# Altium schematic symbol library AltiumLib.SchLib: 341 symbols (part 4 of 5)
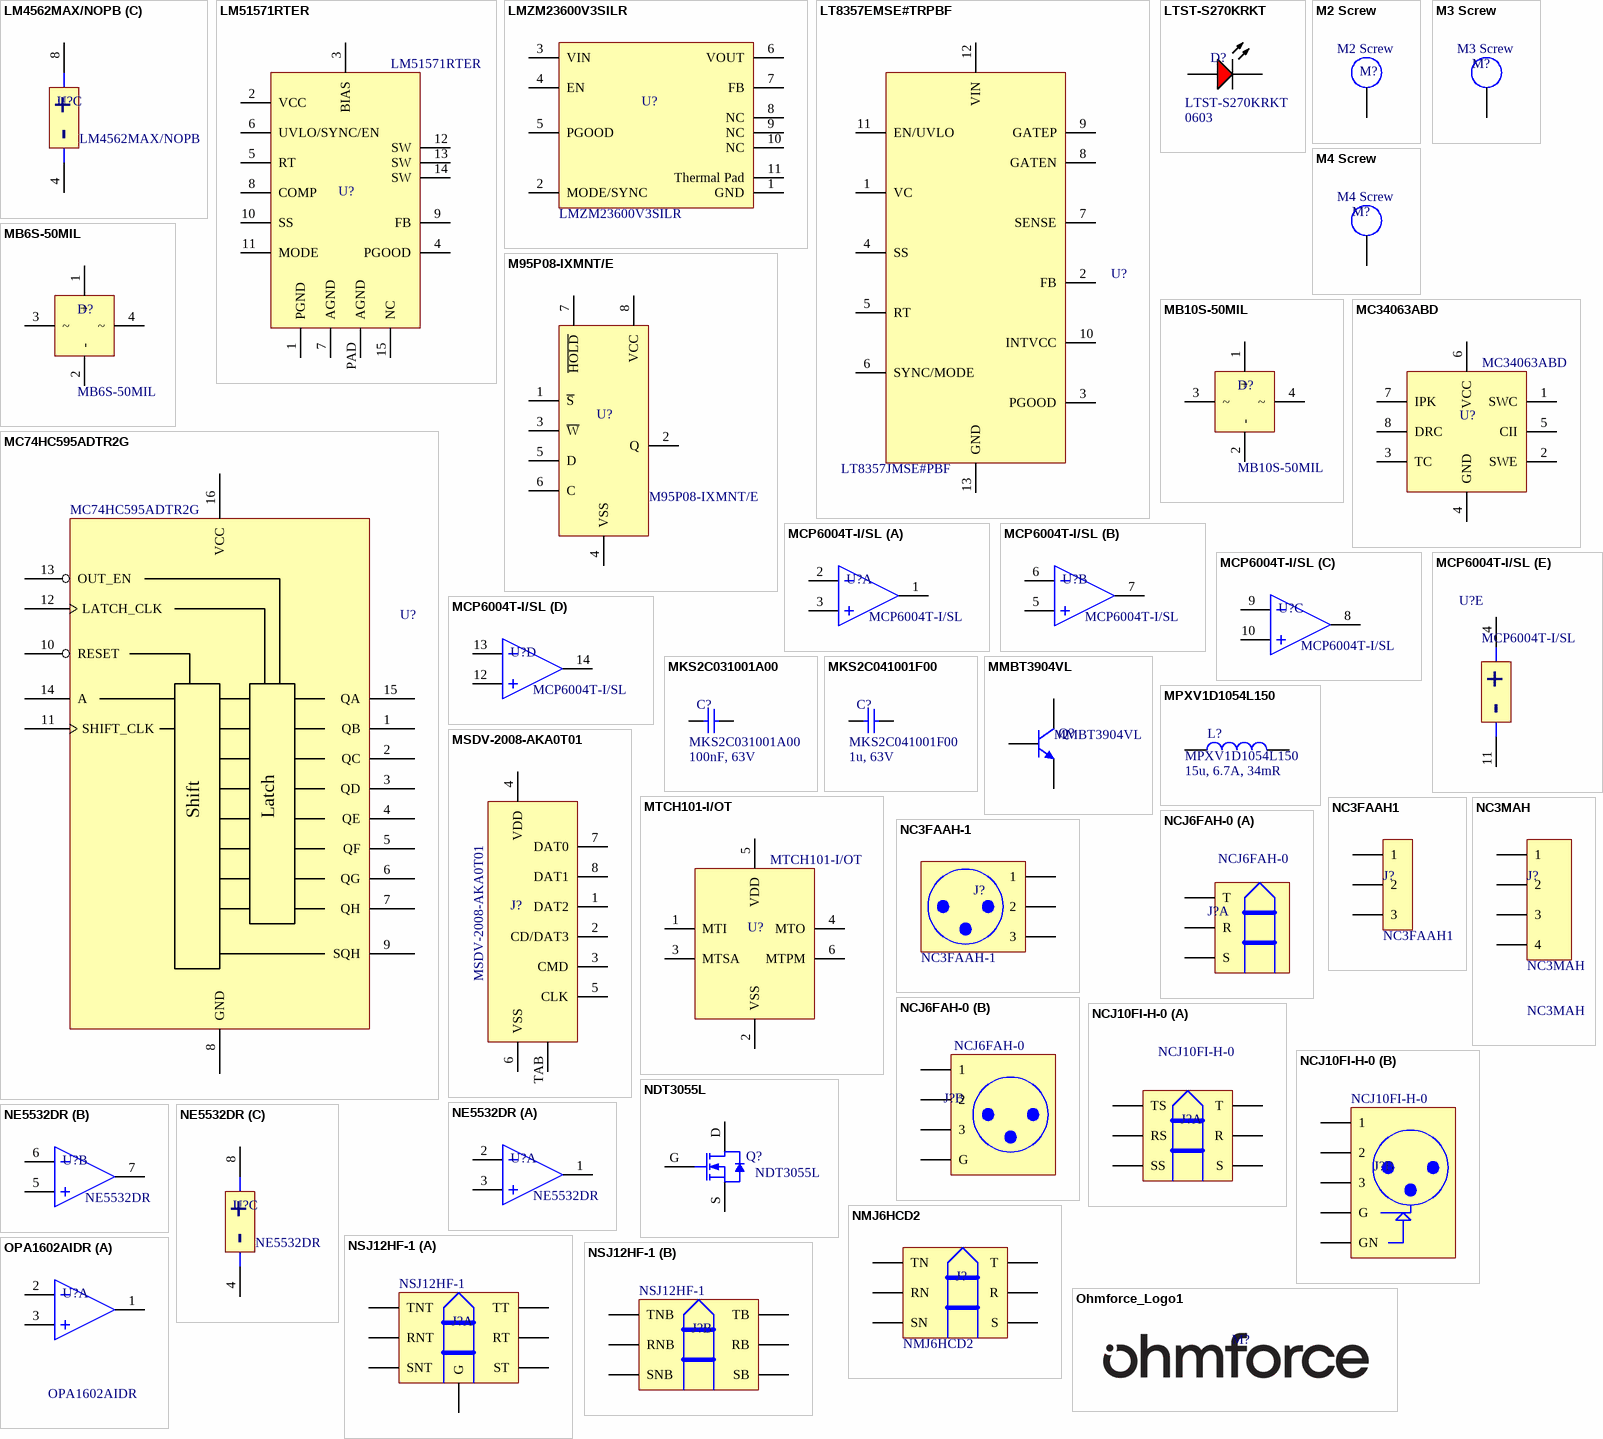
[diagram p22: symbols LM4562MAX/NOPB to OPA1602AIDR]

## NDT3055L
designator Q?
N-Channel Logic Level Enahncement Mode Field Effect Transistor 60V, 4A, 100mΩ; Manufacturer: On Semiconductors; Drain to Source Resistance: 70mR; Nominal Vgs: 1.6V; Number of Elements: 1; Max Power Dissipation: 3W; Voltage: 40V; Current Rating: 3.5A; Input Capacitance: 345pF; Fall Time: 7ns; Current: 32A; Rds On Max: 100mR; Rise Time: 7.5ns; Gate to Source Voltage (Vgs): 20V; Turn-Off Delay Time: 20ns; Turn-On Delay Time: 5ns; Case/Package: SOT-223; Drain to Source Breakdown Voltage: 60V; Packaging: Tape and Reel; Category: Transistor; Lead Free: Lead Free; Voltage Rating (DC): 60V; Package Quantity: 2500; Series: -; Length: 6.5mm; Max Operating Temperature: 150°C; Width: 6.7mm; Dual Supply Voltage: 60V; Drain to Source Voltage (Vdss): 60V; Height: 1.6mm; Reach SVHC Compliant: No; Polarity: N-CHANNEL; Drain-source On Resistance-Max: 100mR; Power Dissipation: 3W; Mounting Technology: Surface Mount; Continuous Drain Current (ID): 4A; Min Operating Temperature: -65°C; Threshold Voltage: 1.6V; Pins: 4; RoHS Compliant: Yes; Radiation Hardening: No; Manufacturer Part Number: NDT3055L; Component Type: Standard_Transistor; Sub-Category: MOSFET; Package: SOT223-4; Value: NDT3055L
footprint SOT230P700X165-4N (SOT223, 4-Leads, Body 6.50x7.00mm (avg), Pitch 2.30mm, IPC Medium Density); pin to pad D>2+TAB G>1 S>3
pins: D, G, S

## NE5532DR
designator U?
Operational Amplifiers - Op Amps Dual Low Noise Op Amp; Manufacturer: Texas Instruments; Category: IC; Sub-Category: OpAmp; Package: SOIC8; Value: NE5532DR
footprint SOIC127P600X175-8L (SOIC, 8-Leads, Body 4,90x3,90mm, Pitch 1,27mm, IPC High Density)
part A pins: 1 OUT1, 2 IN1-, 3 IN1+
part B pins: 5 IN2+, 6 IN2-, 7 OUT2
part C pins: 4 VCC- (power), 8 VCC+ (power)
part C text: +; -

## NMJ6HCD2
designator J?
1/4" stereo jack, switched, with chrome ferrule and straight PCB pins, mounting nut included; Manufacturer: Neutrik; Category: Connector; Sub-Category: Jack; Value: NMJ6HCD2
footprint NMJ6HCD2
pins: R, RN, S, SN, T, TN

## NSJ12HF-1
designator J?
Stereo dual jack, full threaded nose; Manufacturer: Neutrik; Sub-Category: Jack; Category: Connector; Value: NSJ12HF-1
footprint NSJ12HF-1
part A pins: G, RNT, RT, SNT, ST, TNT, TT
part B pins: RB, RNB, SB, SNB, TB, TNB

## Ohmforce_Logo1
designator M?  (value not drawn)
20*3.5mm ohmforce logo; Value: Ohmforce_Logo1; Category: Mechanical; Sub-Category: Logo
footprint Ohmforce_Logo1
footprint Ohmforce_Logo1_Silver

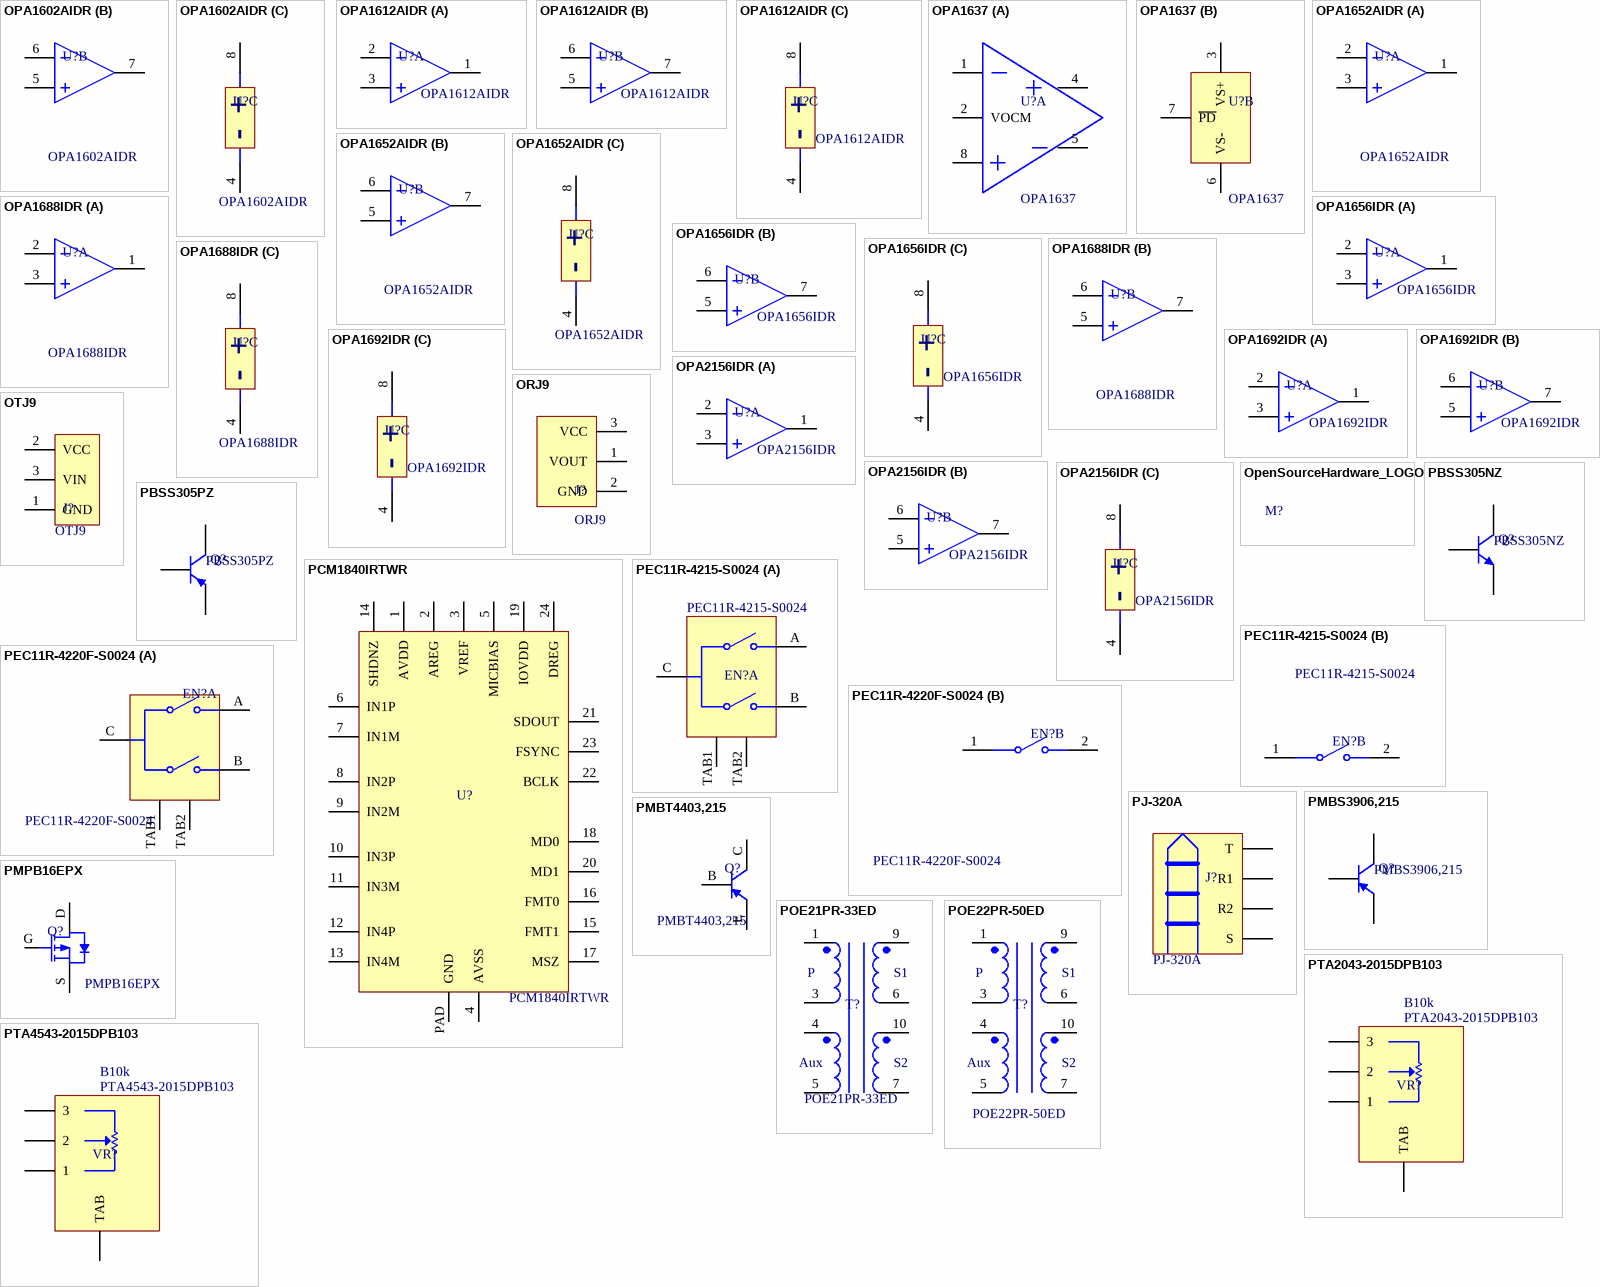
[diagram p11: symbols OPA1602AIDR to PTA4543-2015DPB103]

## OPA1602AIDR
designator U?
SoundPlus™ High-Performance, Bipolar-Input AUDIO OPERATIONAL AMPLIFIERS; Manufacturer: Texas Instruments; Category: IC; Sub-Category: OpAmp; Package: SOIC8; Value: OPA1602AIDR
footprint SOIC127P600X175-8L (SOIC, 8-Leads, Body 4,90x3,90mm, Pitch 1,27mm, IPC High Density)
part A pins: 1 OUT1, 2 IN1-, 3 IN1+
part B pins: 5 IN2+, 6 IN2-, 7 OUT2
part C pins: 4 VCC- (power), 8 VCC+ (power)
part C text: +; -

## OPA1612AIDR
designator U?
High-Performance, Bipolar-Input Audio Operational Amplifiers; Manufacturer: Texas Instruments; Category: IC; Sub-Category: OpAmp; Package: SOIC8; Value: OPA1612AIDR
footprint SOIC127P600X175-8L (SOIC, 8-Leads, Body 4,90x3,90mm, Pitch 1,27mm, IPC High Density)
part A pins: 1 OUT1, 2 IN1-, 3 IN1+
part B pins: 5 IN2+, 6 IN2-, 7 OUT2
part C pins: 4 VCC- (power), 8 VCC+ (power)
part C text: +; -

## OPA1637
designator U?
High-Fidelity, Low-Noise, Fully-Differential, Burr-Brown™ Audio Operational Amplifier; Manufacturer: Texas Instruments; Category: IC; Sub-Category: OpAmp; Package: VSSOP8; Value: OPA1637
footprint TSOP65P490X110-8N (TSOP, 8-Leads, Body 3,00x3,00mm, Pitch 0,65mm, IPC Medium Density)
part A pins: 1 IN-, 2 VOCM, 4 OUT+, 5 OUT-, 8 IN+
part B pins: 3 VS+, 6 VS-, 7 ~{PD}

## OPA1652AIDR
designator U?
SoundPlus™ Low Noise and Distortion, General-Purpose, FET-Input Audio Operational Amplifiers; Manufacturer: Texas Instruments; Category: IC; Sub-Category: OpAmp; Package: SOIC8; Value: OPA1652AIDR
footprint SOIC127P600X175-8L (SOIC, 8-Leads, Body 4,90x3,90mm, Pitch 1,27mm, IPC High Density)
part A pins: 1 OUT1, 2 IN1-, 3 IN1+
part B pins: 5 IN2+, 6 IN2-, 7 OUT2
part C pins: 4 VCC- (power), 8 VCC+ (power)
part C text: +; -

## OPA1656IDR
designator U?
Ultra-Low-Noise, Low-Distortion, FET-Input, Burr-Brown™ Audio Operational Amplifiers; Manufacturer: Texas Instruments; Category: IC; Sub-Category: OpAmp; Package: SOIC8; Value: OPA1656IDR
footprint SOIC127P600X175-8L (SOIC, 8-Leads, Body 4,90x3,90mm, Pitch 1,27mm, IPC High Density)
part A pins: 1 OUT1, 2 IN1-, 3 IN1+
part B pins: 5 IN2+, 6 IN2-, 7 OUT2
part C pins: 4 VCC- (power), 8 VCC+ (power)
part C text: +; -

## OPA1688IDR
designator U?
36-V, Single-Supply, 10-MHz, Rail-to-Rail Output, / SoundPlus™ Audio Operational Amplifier; Manufacturer: Texas Instruments; Category: IC; Sub-Category: OpAmp; Package: SOIC8; Value: OPA1688IDR
footprint SOIC127P600X175-8L (SOIC, 8-Leads, Body 4,90x3,90mm, Pitch 1,27mm, IPC High Density)
part A pins: 1 OUT1, 2 IN1-, 3 IN1+
part B pins: 5 IN2+, 6 IN2-, 7 OUT2
part C pins: 4 VCC- (power), 8 VCC+ (power)
part C text: +; -

## OPA1692IDR
designator U?
Low-Power, Low-Noise and Low-Distortion / SoundPlus™ Audio Operational Amplifiers; Manufacturer: Texas Instruments; Category: IC; Sub-Category: OpAmp; Package: SOIC8; Value: OPA1692IDR
footprint SOIC127P600X175-8L (SOIC, 8-Leads, Body 4,90x3,90mm, Pitch 1,27mm, IPC High Density)
part A pins: 1 OUT1, 2 IN1-, 3 IN1+
part B pins: 5 IN2+, 6 IN2-, 7 OUT2
part C pins: 4 VCC- (power), 8 VCC+ (power)
part C text: +; -

## OPA2156IDR
designator U?
Ultra-Low Noise, Wide-Bandwidth, CMOS, Precision, Rail-to-Rail, Operational Amplifier; Manufacturer: Texas Instruments; Category: IC; Sub-Category: OpAmp; Package: SOIC8; Value: OPA2156IDR
footprint SOIC127P600X175-8L (SOIC, 8-Leads, Body 4,90x3,90mm, Pitch 1,27mm, IPC High Density)
part A pins: 1 OUT1, 2 IN1-, 3 IN1+
part B pins: 5 IN2+, 6 IN2-, 7 OUT2
part C pins: 4 VCC- (power), 8 VCC+ (power)
part C text: +; -

## OpenSourceHardware_LOGO
designator M?  (value not drawn)
OpenSourceHardware LOGO; Value: OpenSourceHardware_LOGO; Category: Mechanical; Sub-Category: Logo
footprint OpenSourceHardware_LOGO_8*8

## ORJ9
designator J?
Optical receiver. Hinged, black shutter; Manufacturer: Cliff; Category: Connector; Sub-Category: Optical; Value: ORJ9
footprint ORJ9
pins: 1 VOUT, 2 GND, 3 VCC

## OTJ9
designator J?
Optical transmitter. Hinged, grey shutter.; Manufacturer: Cliff; Category: Connector; Sub-Category: Optical; Value: OTJ9
footprint ORJ9
pins: 1 GND, 2 VCC, 3 VIN

## PBSS305NZ
designator Q?
80 V, 5.1 A NPN low VCEsat (BISS) transistor; Manufacturer: NXP; Manufacturer Part Number: DZT2222A-13; Collector-emitter Voltage-Max: 40V; Time @ Peak Reflow Temperature-Max (s): 40s; Number of Elements: 1; Case Connection: COLLECTOR; Transistor Application: SWITCHING; Package Body Material: Plastic; Turn-on Time-Max (ton): 35ns; Power Dissipation-Max (Abs): 1W; DC Current Gain-Min (hFE): 40; Max Collector Current: 600mA; Transistor Element Material: SILICON; Transition Frequency-Nom (fT): 300MHz; Qualification Status: Not Qualified; Turn-off Time-Max (toff): 285ns; Max Operating Temperature: 150°C; JESD-609 Code: e3; Moisture Sensitivity Level: 1; Sub-Category: BJT; JESD-30 Code: R-PDSO-G4; RoHS Compliant: Yes; Surface Mount: Yes; REACH SVHC: Yes; Polarity/Channel Type: NPN; Terminal Finish: Tin; Terminal Form: Gull Wing; Package Shape: Rectangular; Number of Pins: 4; Package Style: SMALL OUTLINEMeter; Category: Transistor; Peak Reflow Temperature (Cel): 260°C; Terminal Position: DUAL; Component Type: Standard_Transistor; Package: SOT223-4; Value: PBSS305NZ
footprint SOT230P700X165-4N (SOT223, 4-Leads, Body 6.50x7.00mm (avg), Pitch 2.30mm, IPC Medium Density); pin to pad B>1 C>2+TAB E>3
pins: B, C, E

## PBSS305PZ
designator Q?
80 V, 5.1 A PNP low VCEsat (BISS) transistor; Manufacturer: NXP; Manufacturer Part Number: DZT2222A-13; Collector-emitter Voltage-Max: 40V; Time @ Peak Reflow Temperature-Max (s): 40s; Number of Elements: 1; Case Connection: COLLECTOR; Transistor Application: SWITCHING; Polarity/Channel Type: NPN; Package Body Material: Plastic; Turn-on Time-Max (ton): 35ns; Power Dissipation-Max (Abs): 1W; DC Current Gain-Min (hFE): 40; Max Collector Current: 600mA; Transistor Element Material: SILICON; Transition Frequency-Nom (fT): 300MHz; Qualification Status: Not Qualified; Turn-off Time-Max (toff): 285ns; Max Operating Temperature: 150°C; JESD-609 Code: e3; Moisture Sensitivity Level: 1; Sub-Category: BJT; JESD-30 Code: R-PDSO-G4; RoHS Compliant: Yes; Surface Mount: Yes; REACH SVHC: Yes; Terminal Finish: Tin; Terminal Form: Gull Wing; Package Shape: Rectangular; Number of Pins: 4; Package Style: SMALL OUTLINEMeter; Category: Transistor; Peak Reflow Temperature (Cel): 260°C; Terminal Position: DUAL; Component Type: Standard_Transistor; Package: SOT223-4; Value: PBSS305PZ
footprint SOT230P700X165-4N (SOT223, 4-Leads, Body 6.50x7.00mm (avg), Pitch 2.30mm, IPC Medium Density); pin to pad B>1 C>2+TAB E>3
pins: B, C, E

## PCM1840IRTWR
designator U?
Quad Channel, 32-Bit, 192-kHz, Burr-BrownTM Audio ADC; Manufacturer: Texas Instruments; Category: IC; Sub-Category: ADC; Package: QFN24; Value: PCM1840IRTWR
footprint PQFN50P400X400X80_HS-25N (PQFN, 24-Leads, Body 4,00x4,00mm, Pitch 0,50mm, Thermal Pad 2,70x2,70mm, IPC Medium Density)
pins: 1 AVDD, 2 AREG, 3 VREF, 4 AVSS, 5 MICBIAS, 6 IN1P, 7 IN1M, 8 IN2P, 9 IN2M, 10 IN3P, 11 IN3M, 12 IN4P, 13 IN4M, 14 SHDNZ, 15 FMT1, 16 FMT0, 17 MSZ, 18 MD0, 19 IOVDD, 20 MD1, 21 SDOUT, 22 BCLK, 23 FSYNC, 24 DREG, PAD GND

## PEC11R-4215-S0024
designator EN?
Rotary Encoder Mechanical 24 Quadrature (Incremental) Vertical; Manufacturer: Bourns; Category: Switch; Sub-Category: Encoder; Value: PEC11R-4215-S0024
footprint PEC11R-4215-S0024
part A pins: A, B, C, TAB1, TAB2
part B pins: 1, 2

## PEC11R-4220F-S0024
designator EN?
Rotary Encoder Mechanical 24 Quadrature (Incremental) Vertical; Manufacturer: Bourns; Category: Switch; Sub-Category: Encoder; Value: PEC11R-4220F-S0024
footprint PEC11R-4220F-S0024
part A pins: A, B, C, TAB1, TAB2
part B pins: 1, 2

## PJ-320A
designator J?
3.5mm Headphone Jack 30V 500mA Copper Plugin Audio Connectors ROHS; Manufacturer: HanElectricity; Category: Connector; Sub-Category: Jack; Value: PJ-320A
footprint PJ-320A
pins: R1, R2, S, T

## PMBS3906,215
designator Q?
TRANS PNP 40V 0.1A SOT23; Manufacturer: Nexperia; Manufacturer Part Number: PMBS3906215; Category: Transistor; Sub-Category: BJT; Component Type: Standard_Transistor; Package: SOT23-3; Value: PMBS3906,215
footprint SOT95P230X110-3N (SOT23, 3-Leads, Body 2.90x2.30mm, Pitch 0.95mm, IPC Medium Density); pin to pad B>1 C>3 E>2
pins: B, C, E

## PMBT4403,215
designator Q?
40 V, 600 mA, PNP switching transistor; Manufacturer: Nexperia; Category: Transistor; Sub-Category: BJT; Value: PMBT4403,215
footprint SOT95P230X110-3N; pin to pad B>1 C>3 E>2
pins: B, C, E

## PMPB16EPX
designator Q?
30V, P-channel Trench MOSFET; Manufacturer: Nexperia; Category: Transistor; Sub-Category: MOSFET; Value: PMPB16EPX
footprint SOT1220; pin to pad D>1+2+5+6+7 G>3 S>4+8
pins: D, G, S

## POE21PR-33ED
designator T?
SMPS Transformer, 21W; Manufacturer: Coilcraft; Sub-Category: Transformer; Category: Inductor; Component Type: Standard_Passive_Transformer; Value: POE21PR-33ED
footprint POE24PR-12ED (Flyback & Forward Transformers for PoE)
pins: 1 P_P, 3 P_N, 4 AUX_P, 5 AUX_N, 6 S1_N, 7 S2_N, 9 S1_P, 10 S2_P
text: P; S1; Aux; S2

## POE22PR-50ED
designator T?
SMPS Transformer, 22W; Manufacturer: Coilcraft; RoHS Compliant: Yes; Sub-Category: Transformer; Category: Inductor; Manufacturer Part Number: POE22PR-50ED; Component Type: Standard_Passive_Transformer; Value: POE22PR-50ED
footprint POE24PR-12ED (Flyback & Forward Transformers for PoE)
pins: 1 P_P, 3 P_N, 4 AUX_P, 5 AUX_N, 6 S1_N, 7 S2_N, 9 S1_P, 10 S2_P
text: P; S1; Aux; S2

## PTA2043-2015DPB103
designator VR?  Notes: B10k  (hidden comment: PTA2043-2015DPB103)
9mm Size Metal Shaft Snap-in Type RK09L Series; Manufacturer: Bourns; Category: Resistor; Sub-Category: Pot; Value: PTA2043-2015DPB103
footprint PTA2043-2015DPB103
pins: 1, 2, 3, TAB

## PTA4543-2015DPB103
designator VR?  Notes: B10k  (hidden comment: PTA4543-2015DPB103)
Low Profile Slide Potentiometer, 10kB; Manufacturer: Bourns; Category: Resistor; Sub-Category: Pot; ComponentLink1Description: Product Page; ComponentLink1URL: https://www.bourns.com/products/potentiometers/slide-potentiometers/product/PTA; ComponentLink2Description: Datasheet; ComponentLink2URL: https://www.bourns.com/docs/product-datasheets/pta.pdf?sfvrsn=d56272f6_14; Value: PTA4543-2015DPB103
footprint PTA4543-2015DPB103
pins: 1, 2, 3, TAB

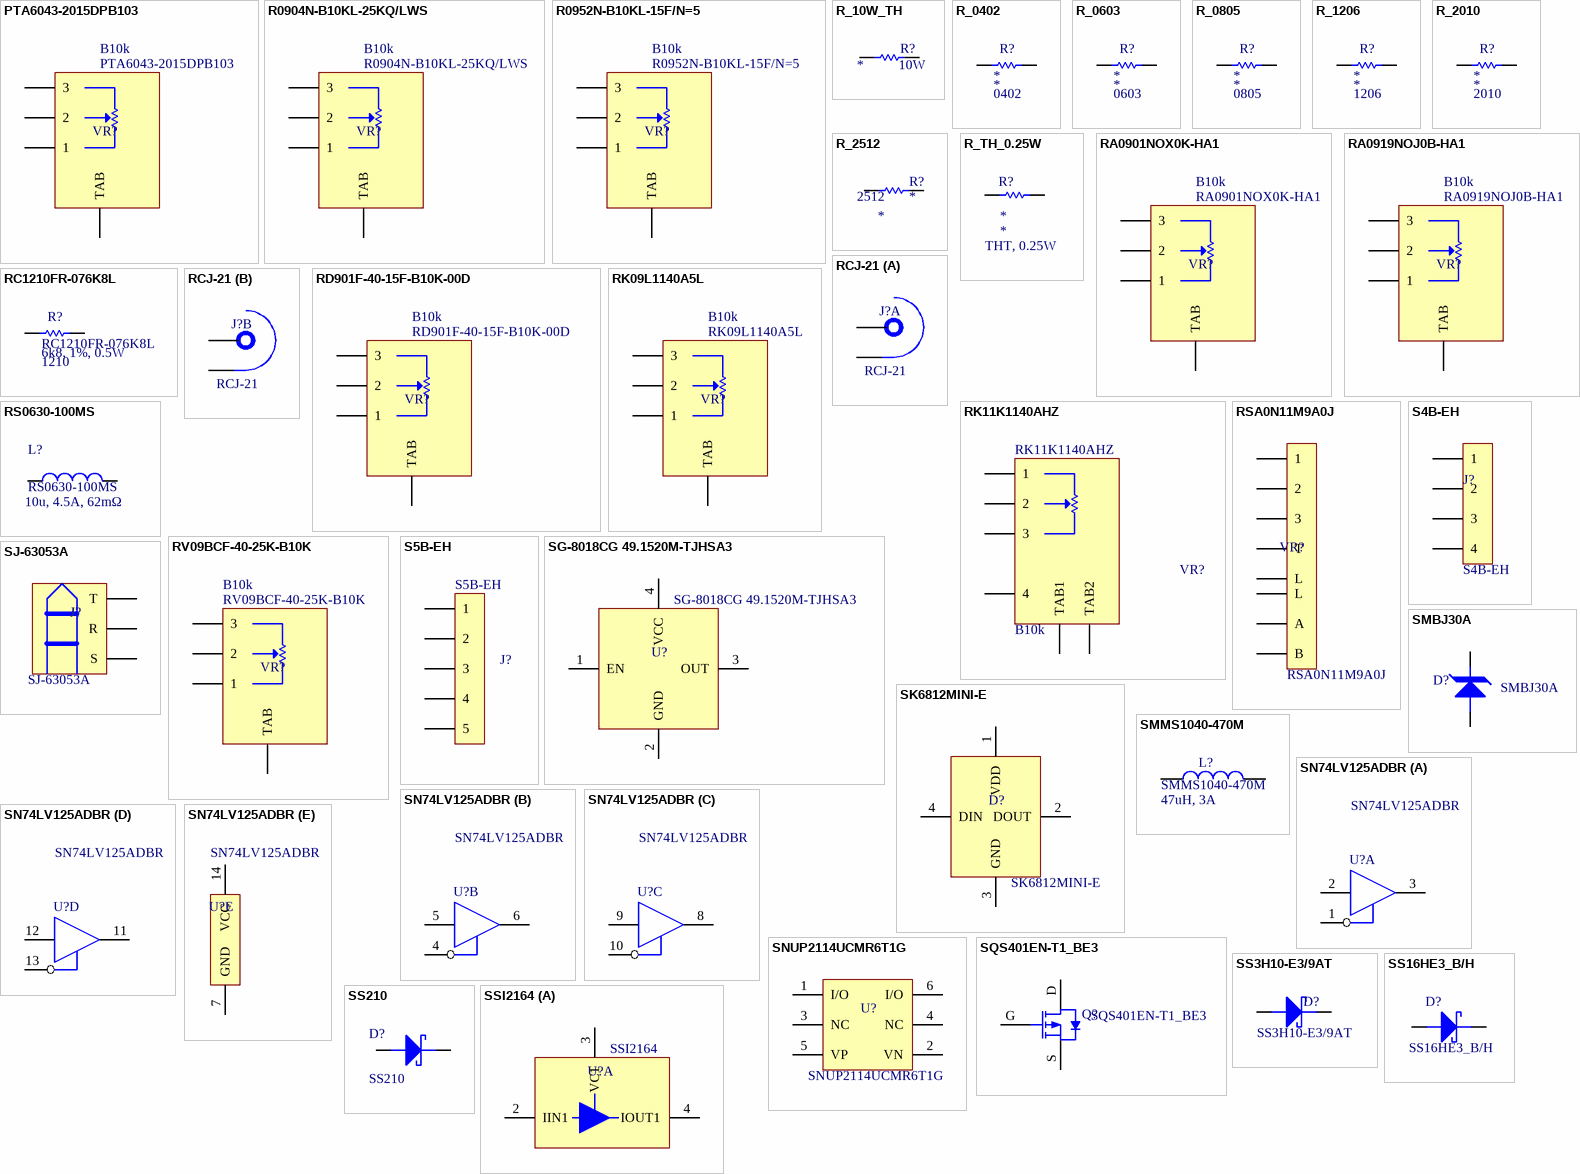
[diagram p12: symbols PTA6043-2015DPB103 to SSI2164]

## PTA6043-2015DPB103
designator VR?  Notes: B10k  (hidden comment: PTA6043-2015DPB103)
9mm Size Metal Shaft Snap-in Type RK09L Series; Manufacturer: Bourns; Category: Resistor; Sub-Category: Pot; Value: PTA6043-2015DPB103
footprint PTA6043-2015DPB103
pins: 1, 2, 3, TAB

## R0904N-B10KL-25KQ/LWS
designator VR?  Notes: B10k  (hidden comment: R0904N-B10KL-25KQ/LWS)
Potentiometers 9mm Linear 10K Flat Shaft; Manufacturer: Song-Huei; Category: Resistor; Sub-Category: Pot; Value: R0904N-B10KL-25KQ/LWS
footprint R0904N-B10KL-25KQ/LWS
pins: 1, 2, 3, TAB

## R0952N-B10KL-15F/N=5
designator VR?  Notes: B10k  (hidden comment: R0952N-B10KL-15F/N=5)
Potentiometers 9mm Linear 10K Flat Shaft; Manufacturer: Song-Huei; Category: Resistor; Sub-Category: Pot; Value: R0952N-B10KL-15F/N=5
footprint RD901F-40-15F (9mm Single Potentiometer Metal Shaft)
pins: 1, 2, 3, TAB

## R_10W_TH
designator R?  Notes: 10W  (hidden comment: R_10W_TH)
Generic 10W Through_Hole Cement Resistor; Manufacturer: Generic; Sub-Category: THT; Category: Resistor; Component Type: Standard_Passive_R; Value: *
footprint R_10W_TH (10W Through-Hole Resistor white square type)
pins: 1, 2

## R_0402
designator R?, comment Package: 0402  (hidden comment: R)
Generic 0402 Single Resistor; Manufacturer: Generic; Category: Resistor; Sub-Category: SMD; Notes: *; Value: *
footprint RESC1005X04N (Chip Resistor, 2-Leads, Body 1,00x0,50mm, IPC Medium Density)
pins: 1, 2

## R_0603
designator R?, comment Package: 0603  (hidden comment: R)
Generic 0603 Single Resistor; Manufacturer: Generic; Category: Resistor; Sub-Category: SMD; Notes: *; Value: *
footprint RESC1608X06N
pins: 1, 2

## R_0805
designator R?, comment Package: 0805  (hidden comment: R)
Generic 0805 Single Resistor; Manufacturer: Generic; Category: Resistor; Sub-Category: SMD; Notes: *; Value: *
footprint RESC2012X06N
pins: 1, 2

## R_1206
designator R?, comment Package: 1206  (hidden comment: R)
Generic 1206 Single Resistor; Manufacturer: Generic; Category: Resistor; Sub-Category: SMD; Notes: *; Value: *
footprint RESC3116X06N
pins: 1, 2

## R_2010
designator R?, comment Package: 2010  (hidden comment: R)
Generic 2010 Single Resistor; Manufacturer: Generic; Category: Resistor; Sub-Category: SMD; Notes: *; Value: *
footprint RESC5025X06N
pins: 1, 2

## R_2512
designator R?  Package: 2512  (hidden comment: R_2512)
Generic 2512 Single Resistor; Sub-Category: SMD; Manufacturer: Generic; Category: Resistor; Component Type: Standard_Passive_R; Notes: *; Value: *
footprint RESC6431X06N (Chip Resistor, 2-Leads, Body 6.35x3.10mm, IPC Medium Density)
pins: 1, 2

## R_TH_0.25W
designator R?  Package: THT, 0.25W  (hidden comment: R_TH_0.25W)
Generic Resistor Through Hole 0.25W; Category: Resistor; Sub-Category: THT; Manufacturer: Generic; Component Type: Standard_Passive_R; Notes: *; Value: *
footprint R_TH_0.25W (0.25W Through Hole Resistor)
pins: 1, 2

## RA0901NOX0K-HA1
designator VR?  Notes: B10k  (hidden comment: RA0901NOX0K-HA1)
Potentiometers 9mm Linear 10K Flat Shaft; Manufacturer: Soundwell; Category: Resistor; Sub-Category: Pot; Value: RA0901NOX0K-HA1
footprint R0904N-B10KL-25KQ/LWS
pins: 1, 2, 3, TAB

## RA0919NOJ0B-HA1
designator VR?  Notes: B10k  (hidden comment: RA0919NOJ0B-HA1)
Potentiometers 9mm Linear 10K Flat Shaft; Manufacturer: Soundwell; Category: Resistor; Sub-Category: Pot; Value: RA0919NOJ0B-HA1
footprint RD901F-40-15F (9mm Single Potentiometer Metal Shaft)
pins: 1, 2, 3, TAB

## RC1210FR-076K8L
designator R?  Package: 1210  Notes: 6k8, 1%, 0.5W  (hidden comment: RC1210FR-076K8L)
RES 6.8K OHM 1% 1/2W 1210; Manufacturer: Yageo; Category: Resistor; Sub-Category: SMD; Value: RC1210FR-076K8L
footprint RESC3126X06N (Chip Resistor, 2-Leads, Body 3,10x2,60mm, IPC Medium Density)
pins: 1, 2

## RCJ-21
designator J?
RCA Jack, 2 ports, separate grounds, through hole; Manufacturer: Same Sky; Category: Connector; Sub-Category: RCA; Value: RCJ-21
footprint RCJ-21
part A pins: 1, 2
part B pins: 3, 4

## RD901F-40-15F-B10K-00D
designator VR?, comment value RD901F-40-15F-B10K-00D  Notes: B10k  (hidden comment: RD901F-40-15F)
Potentiometers 9mm Linear 10K Flat Shaft; Manufacturer: Alpha; Category: Resistor; Sub-Category: Pot
footprint RD901F-40-15F (9mm Single Potentiometer Metal Shaft)
pins: 1, 2, 3, TAB

## RK09L1140A5L
designator VR?  Notes: B10k  (hidden comment: RK09L1140A5L)
9mm Size Metal Shaft Snap-in Type RK09L Series; Manufacturer: Alps; Category: Resistor; Sub-Category: Pot; Value: RK09L1140A5L
footprint RK09L1140A5L (9mm Size Metal Shaft Snap-in Type RK09L Series)
pins: 1, 2, 3, TAB

## RK11K1140AHZ
designator VR?  Notes: B10k  (hidden comment: RK11K1140AHZ)
Rotary Potentiometer, 10 kOhm, 1Turn, 50 mW, ± 20%; Manufacturer: Alps; Sub-Category: Pot; Category: Resistor; Manufacturer Part Number: RK11K1140AHZ; Component Type: Standard_Passive_R; Value: RK11K1140AHZ
footprint RK11K1140AHZ (Potentiometer 11mm Size Insulated Shaft Snap-in Type RK11K Series)
pins: 1, 2, 3, 4, TAB1, TAB2

## RS0630-100MS
designator L?  Notes: 10u, 4.5A, 62mΩ  (hidden comment: RS0630-100MS)
10uH 4.5A 5.5A 62mΩ Molded Inductor ±20% SMD,7.2x6.6mm Power Inductors; Manufacturer: Ruishen; Category: Inductor; ComponentLink1Description: Website Link; ComponentLink1URL: https://www.we-online.com/redexpert/article/74438367100?ad; ComponentLink2Description: Datasheet Link; ComponentLink2URL: https://www.we-online.com/redexpert/spec/74438367100?ad; Sub-Category: Power; Value: RS0630-100MS
footprint RS0630-100MS
pins: 1, 2

## RSA0N11M9A0J
designator VR?
Motorized 10k Linear Fader; Manufacturer: Alps; Category: Resistor; Sub-Category: Pot; Value: RSA0N11M9A0J
footprint RSA0N11M9A0J
pins: 1, 2, 3, A, B, L1 L, L2 L, T

## RV09BCF-40-25K-B10K
designator VR?  Notes: B10k  (hidden comment: RV09BCF-40-25K-B10K)
9mm Rotary Type Potentiometer, Snap-In, Insulated Shaft; Manufacturer: Alpha Taiwan; Category: Resistor; Sub-Category: Pot; Value: RV09BCF-40-25K-B10K
footprint RV09BCF-40-25K
pins: 1, 2, 3, TAB

## S4B-EH
designator J?
Conn Shrouded Header (3 Sides) HDR 4 POS 2.5mm Solder RA Side Entry Thru-Hole Box; Manufacturer: JST; Manufacturer Part Number: S4B-EH(LF)(SN); System: Connector; Male/Female: Male; Sub-Category: Header; Category: Connector; Component Type: Standard_Connector; Value: S4B-EH
footprint S4B-EH(LF)(SN) (2.5mm pitch/Disconnectable crimp style connectors)
pins: 1, 2, 3, 4

## S5B-EH
designator J?
Wire-To-Board Connector, Eh Series, Press Fit, Header, 5, 2.5 Mm, Tin Plated Contacts Rohs Compliant: Yes; Manufacturer: JST; Manufacturer Part Number: S5B-EH(LF)(SN); Category: Connector; Sub-Category: Header; System: Connector; Component Type: Standard_Connector; Value: S5B-EH
footprint S5B-EH (Connector Header Through Hole, Right Angle 5 position 0.098" (2.50mm))
pins: 1, 2, 3, 4, 5

## SG-8018CG 49.1520M-TJHSA3
designator U?
49.152MHz Oscillator 2.5x2mm; Manufacturer: Epson; Category: IC; Sub-Category: Oscillator; Value: SG-8018CG 49.1520M-TJHSA3
footprint 2.5*2mm Osc
pins: 1 EN, 2 GND, 3 OUT, 4 VCC

## SJ-63053A
designator J?
6.35 mm, Stereo, Right Angle, Through Hole Mount, 3 Conductors, 0 Internal Switches, Audio Jack Connector; Manufacturer: Same Sky; Category: Connector; Sub-Category: Jack; Value: SJ-63053A
footprint SJ-63053A (6.35 mm, Stereo, Right Angle, Through Hole Mount, 3 Conductors, 0 Internal Switches, Audio Jack Connector)
pins: R, S, T

## SK6812MINI-E
designator D?
3.2x2.8x1.78 mm 0.2W Intelligent external / control surface mount SMD LED; Manufacturer: OPSCO Optoelectronics; Category: Diode; Sub-Category: LED; Value: SK6812MINI-E
footprint SK6812MINI-E
pins: 1 VDD, 2 DOUT, 3 GND, 4 DIN

## SMBJ30A
designator D?
Trans Voltage Suppressor Diode, 600W, 30V V(RWM), Unidirectional, 1 Element, Silicon, DO-214AA; Manufacturer: Bourns; Breakdown Voltage-Nom: 35.8V; Min Breakdown Voltage: 33.3V; Max Power Dissipation: 5W; Number of Elements: 1; Reference Standard: IEC-61000-4-2; Max Breakdown Voltage: 36.8V; Package Body Material: Plastic; Qualification Status: Not Qualified; Min Operating Temperature: -55°C; REACH SVHC: No SVHC; Terminal Finish: Tin; JEDEC-95 Code: DO-214AA; Diode Element Material: SILICON; Moisture Sensitivity Level: 1; Number of Pins: 2; JESD-30 Code: R-PDSO-C2; Technology: AVALANCHE; Terminal Position: DUAL; Rep Pk Reverse Voltage-Max: 30V; Max Operating Temperature: 150°C; Diode Type: TRANS VOLTAGE SUPPRESSOR; Package Style: SMALL OUTLINEMeter; Non-rep Peak Rev Power Dis-Max: 600W; Package Shape: Rectangular; Polarity: Unidirectional; Terminal Form: C BEND; RoHS Compliant: Yes; Surface Mount: Yes; JESD-609 Code: e3; Sub-Category: TVS; Category: Diode; Manufacturer Part Number: SMBJ30A; Component Type: Standard_Diode; Package: SMB; Value: SMBJ30A
footprint DIOM4336X24N (Molded Diode, 2-Leads, Body 4.31x3.62mm, IPC Medium Density)
pins: A, K

## SMMS1040-470M
designator L?  Notes: 47uH, 3A  (hidden comment: SMMS1040-470M)
3A 47uH Integrated molded inductor ±20% 4.5A SMD,11.5x10mm Power Inductors ROHS; Manufacturer: Shun Xiang Nuo Elec; Category: Inductor; Sub-Category: Power; Value: SMMS1040-470M
footprint SMMS1040
pins: 1, 2

## SN74LV125ADBR
designator U?
Bus Driver, LV/LV-A/LVX/H Series, 4-Func, 1-Bit, True Output, CMOS, PDSO14; Manufacturer: Texas Instruments; Control Type: ENABLE LOW; Load Capacitance (CL): 50pF; Number of Ports: 2; Number of Functions: 4; Output Characteristics: 3-STATE; Qualification Status: Not Qualified; Max I(ol): 8mA; Supply Voltage-Nom (Vsup): 2.5V; Propagation Delay (tpd): 18.5ns; Supply Voltage-Min (Vsup): 2V; Supply Voltage-Max (Vsup): 5.5V; Package Body Material: Plastic; Number of Bits: 1; Prop. Delay@Nom-Sup: 13ns; Power Supplies: 3.3V; Terminal Pitch: 0.65mm; Package Shape: Rectangular; Moisture Sensitivity Level: 1; Surface Mount: Yes; Min Operating Temperature: -40°C; Length: 6.2mm; Package Style: SMALL OUTLINE, SHRINK PITCHMeter; Technology: CMOS; Category: IC; Max Operating Temperature: 125°C; Package Code: SSOP; JESD-30 Code: R-PDSO-G14; Packaging: Tape and Reel; Peak Reflow Temperature (Cel): 260°C; Terminal Position: DUAL; Terminal Form: Gull Wing; RoHS Compliant: Yes; Terminal Finish: Nickel; Output Polarity: True; Height - Seated (Max): 2mm; Sub-Category: Logic; JESD-609 Code: e4; Width: 5.3mm; Temperature Grade: AUTOMOTIVE; Number of Pins: 14; Logic IC Type: BUS DRIVER; REACH SVHC: Yes; Manufacturer Part Number: SN74LV125ADBR; Component Type: Standard_IC_Logic; Package: SSOP14; Value: SN74LV125ADBR
footprint SOP65P780X200-14N (SOP, 14-Leads, Body 6.20x5.30mm, Pitch 0.65mm, IPC Medium Density)
part A pins: 1 1~{OE} "Output Enable 1", 2 1A "1A Input", 3 1Y (hiz) "1Y Output"
part B pins: 4 1~{OE} "Output Enable 1", 5 1A "1A Input", 6 1Y (hiz) "1Y Output"
part C pins: 8 1Y (hiz) "1Y Output", 9 1A "1A Input", 10 1~{OE} "Output Enable 1"
part D pins: 11 1Y (hiz) "1Y Output", 12 1A "1A Input", 13 1~{OE} "Output Enable 1"
part E pins: 7 GND (power) "Ground Pin", 14 VCC (power) "Power Pin"

## SNUP2114UCMR6T1G
designator U?
Transient Voltage Suppressor, Low Capacitance ESD Protection for High Speed Data, 6-Pin TSOP, Pb-Free, Tape and Reel; Manufacturer: On Semiconductor; Direction: Unidirectional; Number of Lines: 2; IR Max (uA): 1; VRWM Max (V): 5; V(BR) Min (V): 5.5; ComponentLink3Description: Package Specification; ComponentLink3URL: http://www.onsemi.com/pub_link/Collateral/318G-02.PDF; PackageReference: TSOP-6-318G-02; RoHS: Pb-Free; Mounting Technology: Surface Mount; DatasheetVersion: Rev. 1; ComponentLink2URL: http://www.onsemi.cn/pub_link/Collateral/NUP2114-D.PDF; ComponentLink1Description: Manufacturer URL; Packing: Tape and Reel; ComponentLink2Description: Datasheet; PackageVersion: Rev. V, 06/2012; ComponentLink1URL: http://www.onsemi.com/; PackageDescription: 6-Pin Small Outline Package, Body 3 x 1.5 mm, Pitch 0.95 mm; Category: Diode; Sub-Category: TVS; Package: TSOP6; Value: SNUP2114UCMR6T1G
footprint TSOP95P280X110-6N (TSOP, 6-Leads, Body 2,95x1,50mm, Pitch 0,95mm, IPC Medium Density)
pins: 1 I/O, 2 VN (power), 3 NC, 4 NC, 5 VP (power), 6 I/O

## SQS401EN-T1_BE3
designator Q?
Transistor MOSFET P-Channel 40V 16A 8-Pin PowerPAK; Manufacturer: Vishay; Category: Transistor; Sub-Category: MOSFET; Manufacturer Part Number: SQS401EN-T1_BE3; Component Type: Standard_Transistor; Package: PowerPAK-1212-8; Value: SQS401EN-T1_BE3
footprint Powerpak 1212-8; pin to pad D>5 G>4 S>1+2+3
pins: D, G, S

## SS3H10-E3/9AT
designator D?
Rectifier Diode, Schottky, 1 Phase, 1 Element, 3A, 100V V(RRM), Silicon, DO-214AB; Manufacturer: Vishay; Forward Voltage-Max (VF): 650mV; Time @ Peak Reflow Temperature-Max (s): 40s; Number of Phases: 1; Non-rep Pk Forward Current-Max: 100A; Application(s): EFFICIENCY; Qualification Status: Not Qualified; Package Body Material: Plastic; Terminal Position: DUAL; Diode Element Material: SILICON; JESD-609 Code: e3; JESD-30 Code: R-PDSO-C2; Technology: SCHOTTKY; Diode Type: RECTIFIER; Min Operating Temperature: -65°C; Terminal Finish: Tin; Package Shape: Rectangular; RoHS Compliant: Yes; Rep Pk Reverse Voltage-Max: 100V; REACH SVHC: No SVHC; Moisture Sensitivity Level: 1; Number of Elements: 1; Category: Diode; Peak Reflow Temperature (Cel): 260°C; Terminal Form: C BEND; JEDEC-95 Code: DO-214AB; Max Operating Temperature: 175°C; Max Output Current: 3A; Number of Pins: 2; Package Style: SMALL OUTLINEMeter; Sub-Category: Power; Surface Mount: Yes; Manufacturer Part Number: SS3H10-E3/9AT; Component Type: Standard_Diode; Package: SMC; Value: SS3H10-E3/9AT
footprint DIOM6959X26N (Molded Diode, 2-Leads, Body 6.86x5.91mm, IPC Medium Density)
pins: A, K

## SS16HE3_B/H
designator D?
Rectifier Diode, Schottky, 1 Phase, 1 Element, 1A, 60V V(RRM), Silicon, DO-214AC; Manufacturer: Vishay; Number of Elements: 1; Package Body Material: Plastic; Time @ Peak Reflow Temperature-Max (s): 30s; Reference Standard: AEC-Q101; Technology: SCHOTTKY; Terminal Finish: Tin; Package Shape: Rectangular; JEDEC-95 Code: DO-214AC; Surface Mount: Yes; Category: Diode; RoHS Compliant: Yes; Rep Pk Reverse Voltage-Max: 60V; Peak Reflow Temperature (Cel): 260°C; Terminal Position: DUAL; Terminal Form: C BEND; Diode Type: RECTIFIER; Package Style: SMALL OUTLINEMeter; Max Output Current: 1A; JESD-30 Code: R-PDSO-C2; Number of Pins: 2; REACH SVHC: No SVHC; Min Operating Temperature: -65°C; Sub-Category: Power; Diode Element Material: SILICON; Max Operating Temperature: 150°C; JESD-609 Code: e3; Moisture Sensitivity Level: 1; Manufacturer Part Number: SS16HE3_B/H; Component Type: Standard_Diode; Package: SMA; Value: SS16HE3_B/H
footprint DIOM4227X23N (Molded Diode, 2-Leads, Body 4.25x2.67mm, IPC Medium Density)
pins: A, K

## SS210
designator D?
100V 2A 500uA@100V 850mV@2A SMA(DO-214AC) Schottky Diode; Manufacturer: MDD; Category: Diode; Sub-Category: Power; Package: SMA; Value: SS210
footprint DIOM4227X24N (Molded Diode, 2-Leads, Body 4,25x2,67mm, IPC Medium Density)
pins: A, K

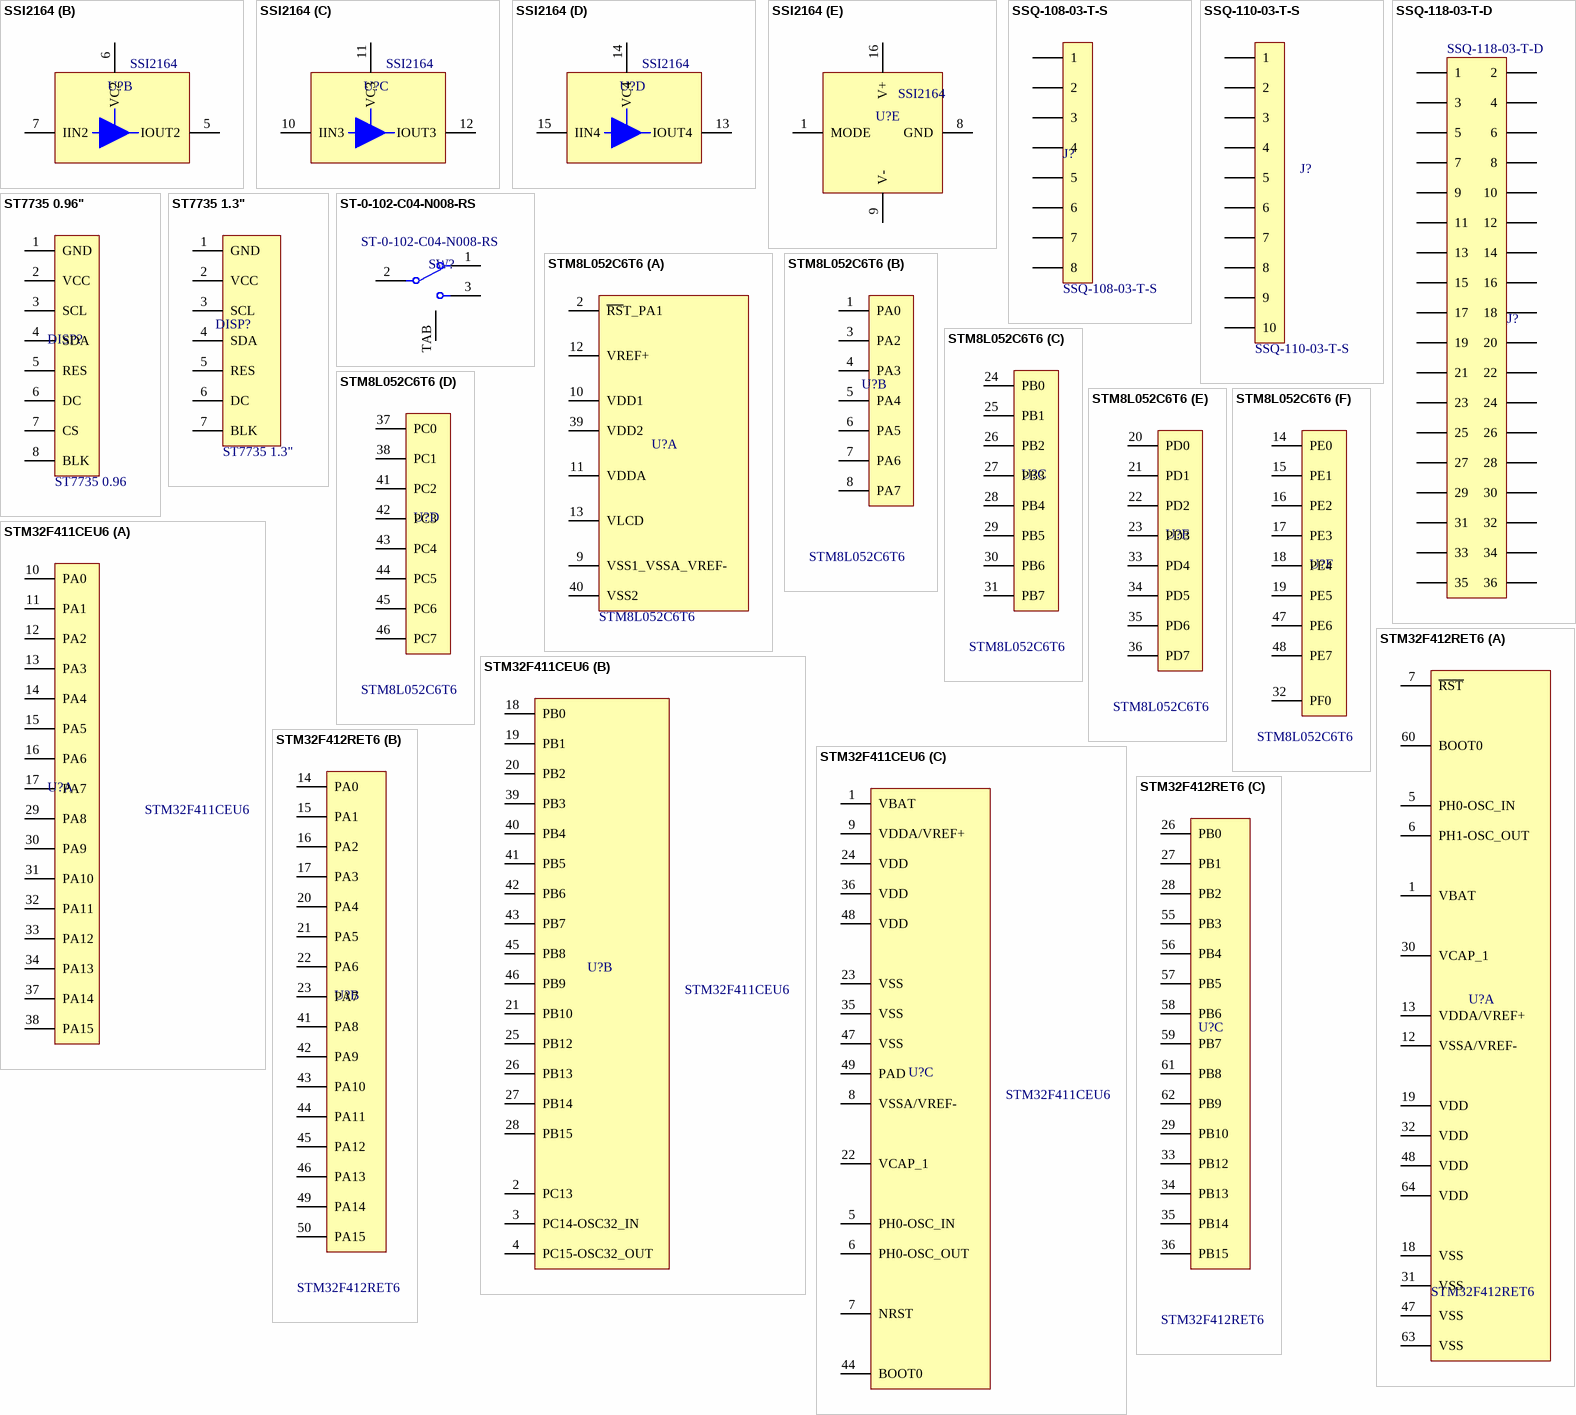
[diagram p13: symbols SSI2164 to STM32F412RET6]

## SSI2164
designator U?
Low-Cost Quad Voltage-Controlled Amplifier; Manufacturer: Sound Semiconductor; Category: IC; Sub-Category: Audio; Package: SOIC16; Value: SSI2164
footprint SOIC127P600X175-16N (SOIC, 16-Leads, Body 10,40x3,95mm, Pitch 1,27mm, IPC Medium Density)
part A pins: 2 IIN1, 3 VC1, 4 IOUT1
part B pins: 5 IOUT2, 6 VC2, 7 IIN2
part C pins: 10 IIN3, 11 VC3, 12 IOUT3
part D pins: 13 IOUT4, 14 VC4, 15 IIN4
part E pins: 1 MODE, 8 GND, 9 V-, 16 V+

## SSQ-108-03-T-S
designator J?
Board Connector, 8 Contact(s), 1 Row(s), Female, Straight, 0.1 inch Pitch, Solder Terminal, Black Insulator, Socket; Manufacturer: Samtec; Number of Contacts: 8; Reliability: COMMERCIAL; Reference Standard: UL; Contact Pattern: RECTANGULAR; Option: General Purpose; MIL Conformance: No; Body Depth: 0.335inch; Number Of Connectors: 1; Mating Information: MULTIPLE MATING PARTS AVAILABLE; Contact Resistance: 10mR; Additional Feature: TIGER BUY CONTACT; Contact Style: SQ PIN-SKT; Plating Thickness: 200uin; Body Breadth: 0.095inch; Termination: Solder; Connector Type: BOARD CONNECTOR; Mounting Technology: Board; RoHS Compliant: Yes; Mounting Style: STRAIGHT; Min Operating Temperature: -65°C; Terminal Pitch: 2.54mm; Body/Shell Style: SOCKET; DIN Conformance: No; Insulation Color: Black; Number Of PCB Rows: 1; JESD-609 Code: e3; IEC Conformance: No; PCB Contact Pattern: RECTANGULAR; Mixed Contacts: No; Insulation Material: Polymer; Contact Finish - Termination: Tin (Sn) - with Nickel (Ni) barrier; Contact Material: Bronze; Number of Rows Loaded: 1; Mating Contact Pitch: 0.1inch; Contact Finish - Mating: TIN; Contact Gender: Female; Max Operating Temperature: 105°C; Category: Connector; Sub-Category: Header; Filter Feature: No; Reach SVHC Compliant: Yes; Manufacturer Part Number: SSQ-108-03-T-S; Component Type: Standard_Connector; Value: SSQ-108-03-T-S
footprint 920-0086-01 (CONN HDR 8POS 0.1 GOLD PCB 6PC)
pins: 1, 2, 3, 4, 5, 6, 7, 8

## SSQ-110-03-T-S
designator J?
Board Connector, 10 Contact(s), 1 Row(s), Female, Straight, 0.1 inch Pitch, Solder Terminal, Black Insulator, Socket; Manufacturer: Samtec; Additional Feature: TIGER BUY CONTACT; Number Of Connectors: 1; Reliability: COMMERCIAL; Number of Contacts: 10; Mixed Contacts: No; Contact Style: SQ PIN-SKT; Body Depth: 0.335inch; Option: General Purpose; PCB Contact Pattern: RECTANGULAR; Contact Resistance: 10mR; Body Breadth: 0.095inch; Plating Thickness: 200uin; Mating Information: MULTIPLE MATING PARTS AVAILABLE; Reference Standard: UL; Min Operating Temperature: -65°C; Category: Connector; Mounting Technology: Board; Connector Type: BOARD CONNECTOR; Insulation Material: Polymer; Contact Gender: Female; Contact Material: Bronze; Termination: Solder; DIN Conformance: No; Terminal Pitch: 2.54mm; Insulation Color: Black; Mating Contact Pitch: 0.1inch; Mounting Style: STRAIGHT; Sub-Category: Header; Body/Shell Style: SOCKET; Max Operating Temperature: 105°C; JESD-609 Code: e3; Filter Feature: No; Number of Rows Loaded: 1; RoHS Compliant: Yes; Contact Finish - Termination: Tin (Sn) - with Nickel (Ni) barrier; IEC Conformance: No; Contact Finish - Mating: MATTE TIN OVER NICKEL (50); MIL Conformance: No; Contact Pattern: RECTANGULAR; Number Of PCB Rows: 1; Reach SVHC Compliant: Yes; Manufacturer Part Number: SSQ-110-03-T-S; Component Type: Standard_Connector; Value: SSQ-110-03-T-S
footprint 920-0087-01 (CONN HDR 10POS 0.1 GOLD PCB 6PC)
pins: 1, 2, 3, 4, 5, 6, 7, 8, 9, 10

## SSQ-118-03-T-D
designator J?
Headers & Wire Housings Tiger Buy Socket Strip with Square Tails, 0.100 Pitch; Manufacturer: Samtec; Connector Type: Receptacle; Contact Resistance: 10mR; Max Voltage Rating (AC): 550V; Max Current Rating: 7.6A; Number of Contacts: 36; Row Spacing: 0.1inch; Gender: Female; Pitch: 2.54mm; Packaging: Bulk; Length: 46.23mm; Number of Rows: 2; Min Operating Temperature: -55°C; Width: 4.95mm; Sub-Category: Header; Contact Material: Bronze; Category: Connector; Series: SSQ; Orientation: Straight; Lead Free: Lead Free; Contact Plating: Tin; Contact Type: Female Socket; Termination: Solder; Mounting Technology: Through Hole; RoHS Compliant: Yes; Color: Black; Max Operating Temperature: 105°C; Depth: 4.95mm; Housing Color: Black; Number of Positions: 36; Housing Material: Polymer; Manufacturer Part Number: SSQ-118-03-T-D; Component Type: Standard_Connector; Value: SSQ-118-03-T-D
footprint SSQ-118-03-T-D (CONN RCPT 36POS 0.1 TIN PCB)
pins: 1, 2, 3, 4, 5, 6, 7, 8, 9, 10, 11, 12, 13, 14, 15, 16, 17, 18, 19, 20, 21, 22, 23, 24, 25, 26, 27, 28, 29, 30, 31, 32, 33, 34, 35, 36

## ST7735 0.96"
designator DISP?  value ST7735 0.96  (hidden comment: ST7735 0.96")
TFT Display Module 0.96 Inches SPI Interface; Manufacturer: Generic; Category: Module; Sub-Category: Display
footprint ST7735 0.96
pins: 1 GND, 2 VCC, 3 SCL, 4 SDA, 5 RES, 6 DC, 7 CS, 8 BLK

## ST7735 1.3"
designator DISP?
TFT Display Module 1.3 Inches SPI Interface; Manufacturer: Generic; Category: Module; Sub-Category: Display; Value: ST7735 1.3"
footprint ST7735 1.3
pins: 1 GND, 2 VCC, 3 SCL, 4 SDA, 5 RES, 6 DC, 7 BLK

## ST-0-102-C04-N008-RS
designator SW?
PC Pin Right Angle SPDT Plugin Toggle Switches; Manufacturer: Yuen Fung; Category: Switch; Sub-Category: Toggle; Value: ST-0-102-C04-N008-RS
footprint ST-0-102-C04-N008-RS
pins: 1, 2, 3, TAB

## STM8L052C6T6
designator U?
Value Line, 8-bit ultra-low-power MCU, 32-KB Flash, 256-byte data / EEPROM, RTC, LCD, timers, USART, I2C, SPI, ADC; Manufacturer: ST Microelectronics; Category: IC; Sub-Category: CPU; Value: STM8L052C6T6
footprint CQFP50P900X900X160-48N (CQFP, 48-Leads, Body 9,00x9,00mm, Pitch 0,50mm, IPC Medium Density)
part A pins: 2 ~{RS}T_PA1, 9 VSS1_VSSA_VREF-, 10 VDD1, 11 VDDA, 12 VREF+, 13 VLCD, 39 VDD2, 40 VSS2
part B pins: 1 PA0, 3 PA2, 4 PA3, 5 PA4, 6 PA5, 7 PA6, 8 PA7
part C pins: 24 PB0, 25 PB1, 26 PB2, 27 PB3, 28 PB4, 29 PB5, 30 PB6, 31 PB7
part D pins: 37 PC0, 38 PC1, 41 PC2, 42 PC3, 43 PC4, 44 PC5, 45 PC6, 46 PC7
part E pins: 20 PD0, 21 PD1, 22 PD2, 23 PD3, 33 PD4, 34 PD5, 35 PD6, 36 PD7
part F pins: 14 PE0, 15 PE1, 16 PE2, 17 PE3, 18 PE4, 19 PE5, 32 PF0, 47 PE6, 48 PE7

## STM32F411CEU6
designator U?
ARM Microcontrollers - MCU STM32 Dyn Eff MCU 512 K 100 MHz CPU; Manufacturer: STMicroelectronics; Category: IC; Sub-Category: CPU; Package: QFN48; Value: STM32F411CEU6
footprint PQFN50P700X700X60_HS-49N (PQFN, 48-Leads, Body 7,00x7,00mm, Pitch 0,50mm, Thermal Pad 5,60x5,60mm, IPC Medium Density)
part A pins: 10 PA0, 11 PA1, 12 PA2, 13 PA3, 14 PA4, 15 PA5, 16 PA6, 17 PA7, 29 PA8, 30 PA9, 31 PA10, 32 PA11, 33 PA12, 34 PA13, 37 PA14, 38 PA15
part B pins: 2 PC13, 3 PC14-OSC32_IN, 4 PC15-OSC32_OUT, 18 PB0, 19 PB1, 20 PB2, 21 PB10, 25 PB12, 26 PB13, 27 PB14, 28 PB15, 39 PB3, 40 PB4, 41 PB5, 42 PB6, 43 PB7, 45 PB8, 46 PB9
part C pins: 1 VBAT, 5 PH0-OSC_IN, 6 PH0-OSC_OUT, 7 NRST, 8 VSSA/VREF-, 9 VDDA/VREF+, 22 VCAP_1, 23 VSS, 24 VDD, 35 VSS, 36 VDD, 44 BOOT0, 47 VSS, 48 VDD, 49 PAD

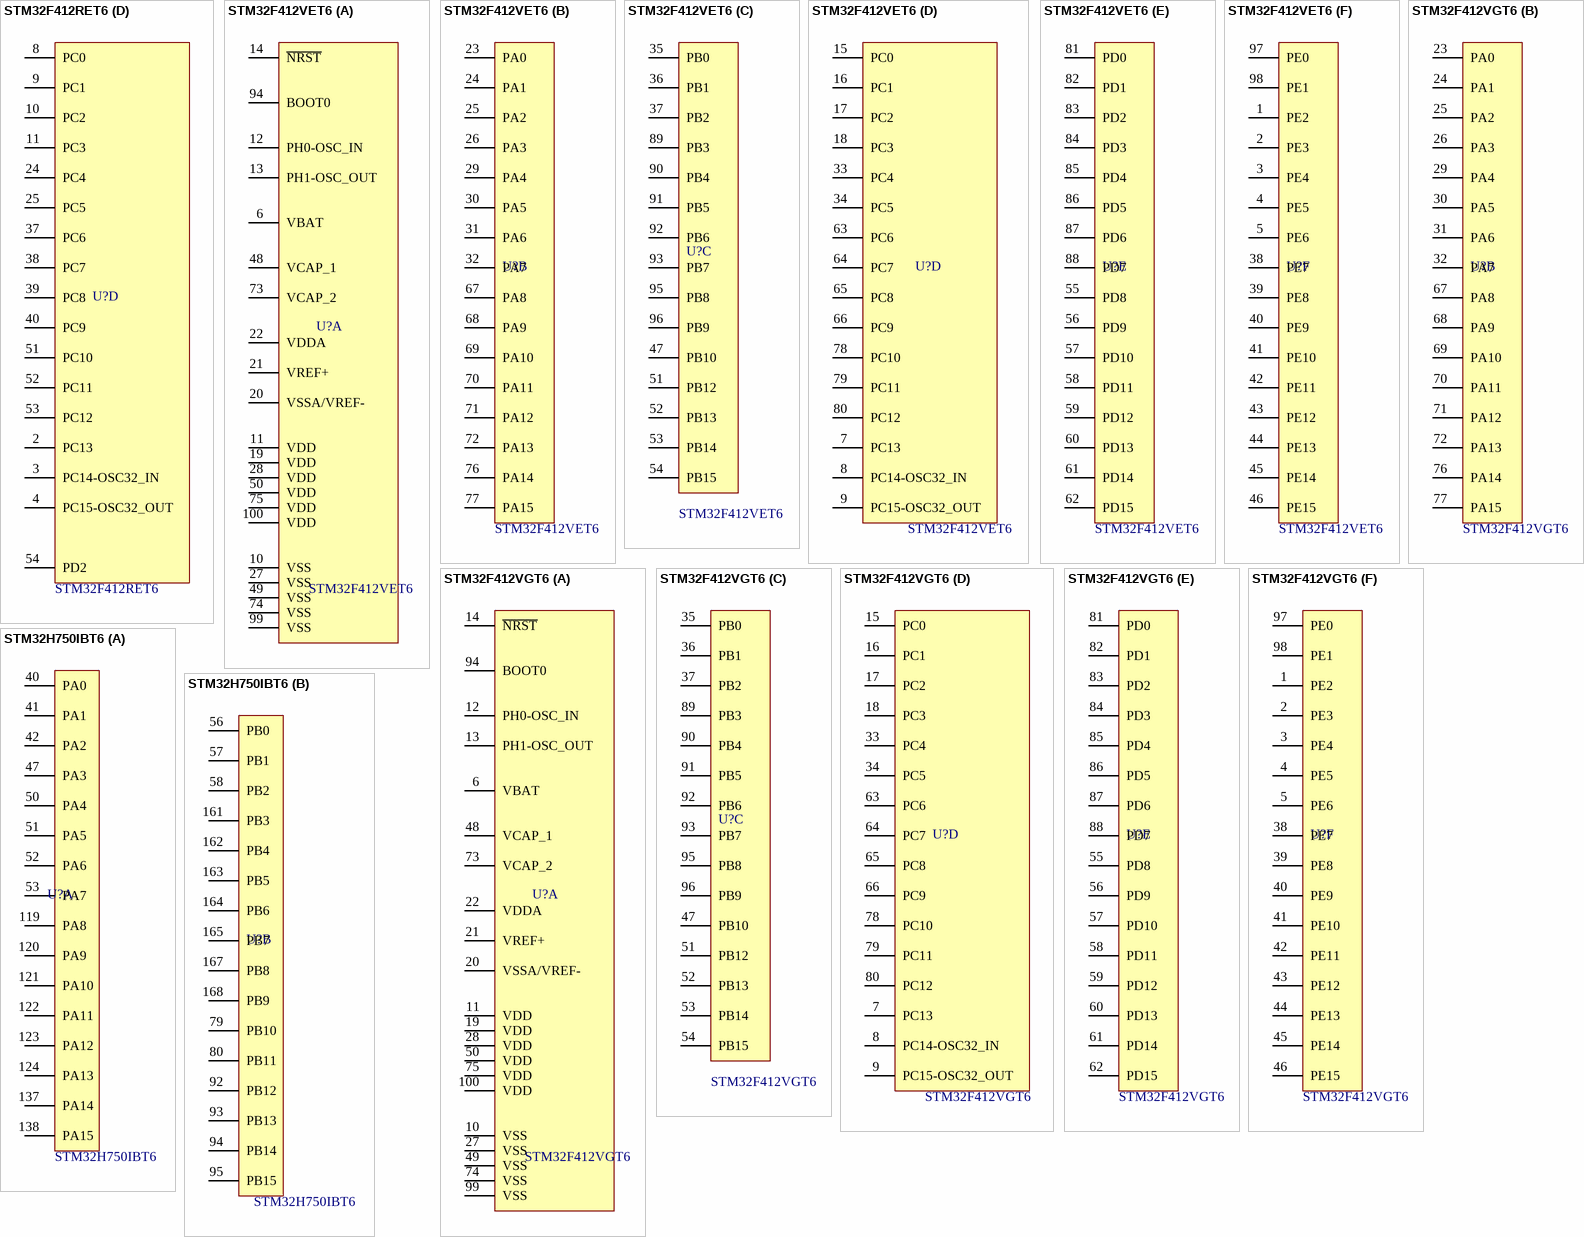
[diagram p14: symbols STM32F412RET6 to STM32H750IBT6]

## STM32F412RET6
designator U?
ARM Microcontrollers - MCU STM32 Dynamic Efficiency MCU BAM, High-performance & DSP FPU, Arm Cortex-M4 MCU; Manufacturer: STMicroelectronics; Category: IC; Sub-Category: CPU; Package: QFP64; Value: STM32F412RET6
footprint TSQFP50P1200X1200X160-64N (TSQFP, 64-Leads, Body 10,00x10,00mm, Pitch 0,50mm, IPC Medium Density)
part A pins: 1 VBAT, 5 PH0-OSC_IN, 6 PH1-OSC_OUT, 7 ~{RST}, 12 VSSA/VREF-, 13 VDDA/VREF+, 18 VSS, 19 VDD, 30 VCAP_1, 31 VSS, 32 VDD, 47 VSS, 48 VDD, 60 BOOT0, 63 VSS, 64 VDD
part B pins: 14 PA0, 15 PA1, 16 PA2, 17 PA3, 20 PA4, 21 PA5, 22 PA6, 23 PA7, 41 PA8, 42 PA9, 43 PA10, 44 PA11, 45 PA12, 46 PA13, 49 PA14, 50 PA15
part C pins: 26 PB0, 27 PB1, 28 PB2, 29 PB10, 33 PB12, 34 PB13, 35 PB14, 36 PB15, 55 PB3, 56 PB4, 57 PB5, 58 PB6, 59 PB7, 61 PB8, 62 PB9
part D pins: 2 PC13, 3 PC14-OSC32_IN, 4 PC15-OSC32_OUT, 8 PC0, 9 PC1, 10 PC2, 11 PC3, 24 PC4, 25 PC5, 37 PC6, 38 PC7, 39 PC8, 40 PC9, 51 PC10, 52 PC11, 53 PC12, 54 PD2

## STM32F412VET6
designator U?
ARM Microcontrollers - MCU STM32 Dynamic Efficiency MCU BAM, High-performance & DSP FPU, Arm Cortex-M4 MCU; Manufacturer: STMicroelectronics; Category: IC; Sub-Category: CPU; Package: QFP100; Value: STM32F412VET6
footprint TSQFP50P1600X1600X160-100N (TSQFP, 100-Leads, Body 14,00x14,00mm, Pitch 0,50mm, IPC Medium Density)
part A pins: 6 VBAT, 10 VSS, 11 VDD, 12 PH0-OSC_IN, 13 PH1-OSC_OUT, 14 ~{NRST}, 19 VDD, 20 VSSA/VREF-, 21 VREF+, 22 VDDA, 27 VSS, 28 VDD, 48 VCAP_1, 49 VSS, 50 VDD, 73 VCAP_2, 74 VSS, 75 VDD, 94 BOOT0, 99 VSS, 100 VDD
part B pins: 23 PA0, 24 PA1, 25 PA2, 26 PA3, 29 PA4, 30 PA5, 31 PA6, 32 PA7, 67 PA8, 68 PA9, 69 PA10, 70 PA11, 71 PA12, 72 PA13, 76 PA14, 77 PA15
part C pins: 35 PB0, 36 PB1, 37 PB2, 47 PB10, 51 PB12, 52 PB13, 53 PB14, 54 PB15, 89 PB3, 90 PB4, 91 PB5, 92 PB6, 93 PB7, 95 PB8, 96 PB9
part D pins: 7 PC13, 8 PC14-OSC32_IN, 9 PC15-OSC32_OUT, 15 PC0, 16 PC1, 17 PC2, 18 PC3, 33 PC4, 34 PC5, 63 PC6, 64 PC7, 65 PC8, 66 PC9, 78 PC10, 79 PC11, 80 PC12
part E pins: 55 PD8, 56 PD9, 57 PD10, 58 PD11, 59 PD12, 60 PD13, 61 PD14, 62 PD15, 81 PD0, 82 PD1, 83 PD2, 84 PD3, 85 PD4, 86 PD5, 87 PD6, 88 PD7
part F pins: 1 PE2, 2 PE3, 3 PE4, 4 PE5, 5 PE6, 38 PE7, 39 PE8, 40 PE9, 41 PE10, 42 PE11, 43 PE12, 44 PE13, 45 PE14, 46 PE15, 97 PE0, 98 PE1

## STM32F412VGT6
designator U?
ARM Microcontrollers - MCU STM32 Dynamic Efficiency MCU BAM, High-performance & DSP FPU, Arm Cortex-M4 MCU; Manufacturer: STMicroelectronics; Category: IC; Sub-Category: CPU; Package: QFP100; Value: STM32F412VGT6
footprint TSQFP50P1600X1600X160-100N (TSQFP, 100-Leads, Body 14,00x14,00mm, Pitch 0,50mm, IPC Medium Density)
part A pins: 6 VBAT, 10 VSS, 11 VDD, 12 PH0-OSC_IN, 13 PH1-OSC_OUT, 14 ~{NRST}, 19 VDD, 20 VSSA/VREF-, 21 VREF+, 22 VDDA, 27 VSS, 28 VDD, 48 VCAP_1, 49 VSS, 50 VDD, 73 VCAP_2, 74 VSS, 75 VDD, 94 BOOT0, 99 VSS, 100 VDD
part B pins: 23 PA0, 24 PA1, 25 PA2, 26 PA3, 29 PA4, 30 PA5, 31 PA6, 32 PA7, 67 PA8, 68 PA9, 69 PA10, 70 PA11, 71 PA12, 72 PA13, 76 PA14, 77 PA15
part C pins: 35 PB0, 36 PB1, 37 PB2, 47 PB10, 51 PB12, 52 PB13, 53 PB14, 54 PB15, 89 PB3, 90 PB4, 91 PB5, 92 PB6, 93 PB7, 95 PB8, 96 PB9
part D pins: 7 PC13, 8 PC14-OSC32_IN, 9 PC15-OSC32_OUT, 15 PC0, 16 PC1, 17 PC2, 18 PC3, 33 PC4, 34 PC5, 63 PC6, 64 PC7, 65 PC8, 66 PC9, 78 PC10, 79 PC11, 80 PC12
part E pins: 55 PD8, 56 PD9, 57 PD10, 58 PD11, 59 PD12, 60 PD13, 61 PD14, 62 PD15, 81 PD0, 82 PD1, 83 PD2, 84 PD3, 85 PD4, 86 PD5, 87 PD6, 88 PD7
part F pins: 1 PE2, 2 PE3, 3 PE4, 4 PE5, 5 PE6, 38 PE7, 39 PE8, 40 PE9, 41 PE10, 42 PE11, 43 PE12, 44 PE13, 45 PE14, 46 PE15, 97 PE0, 98 PE1

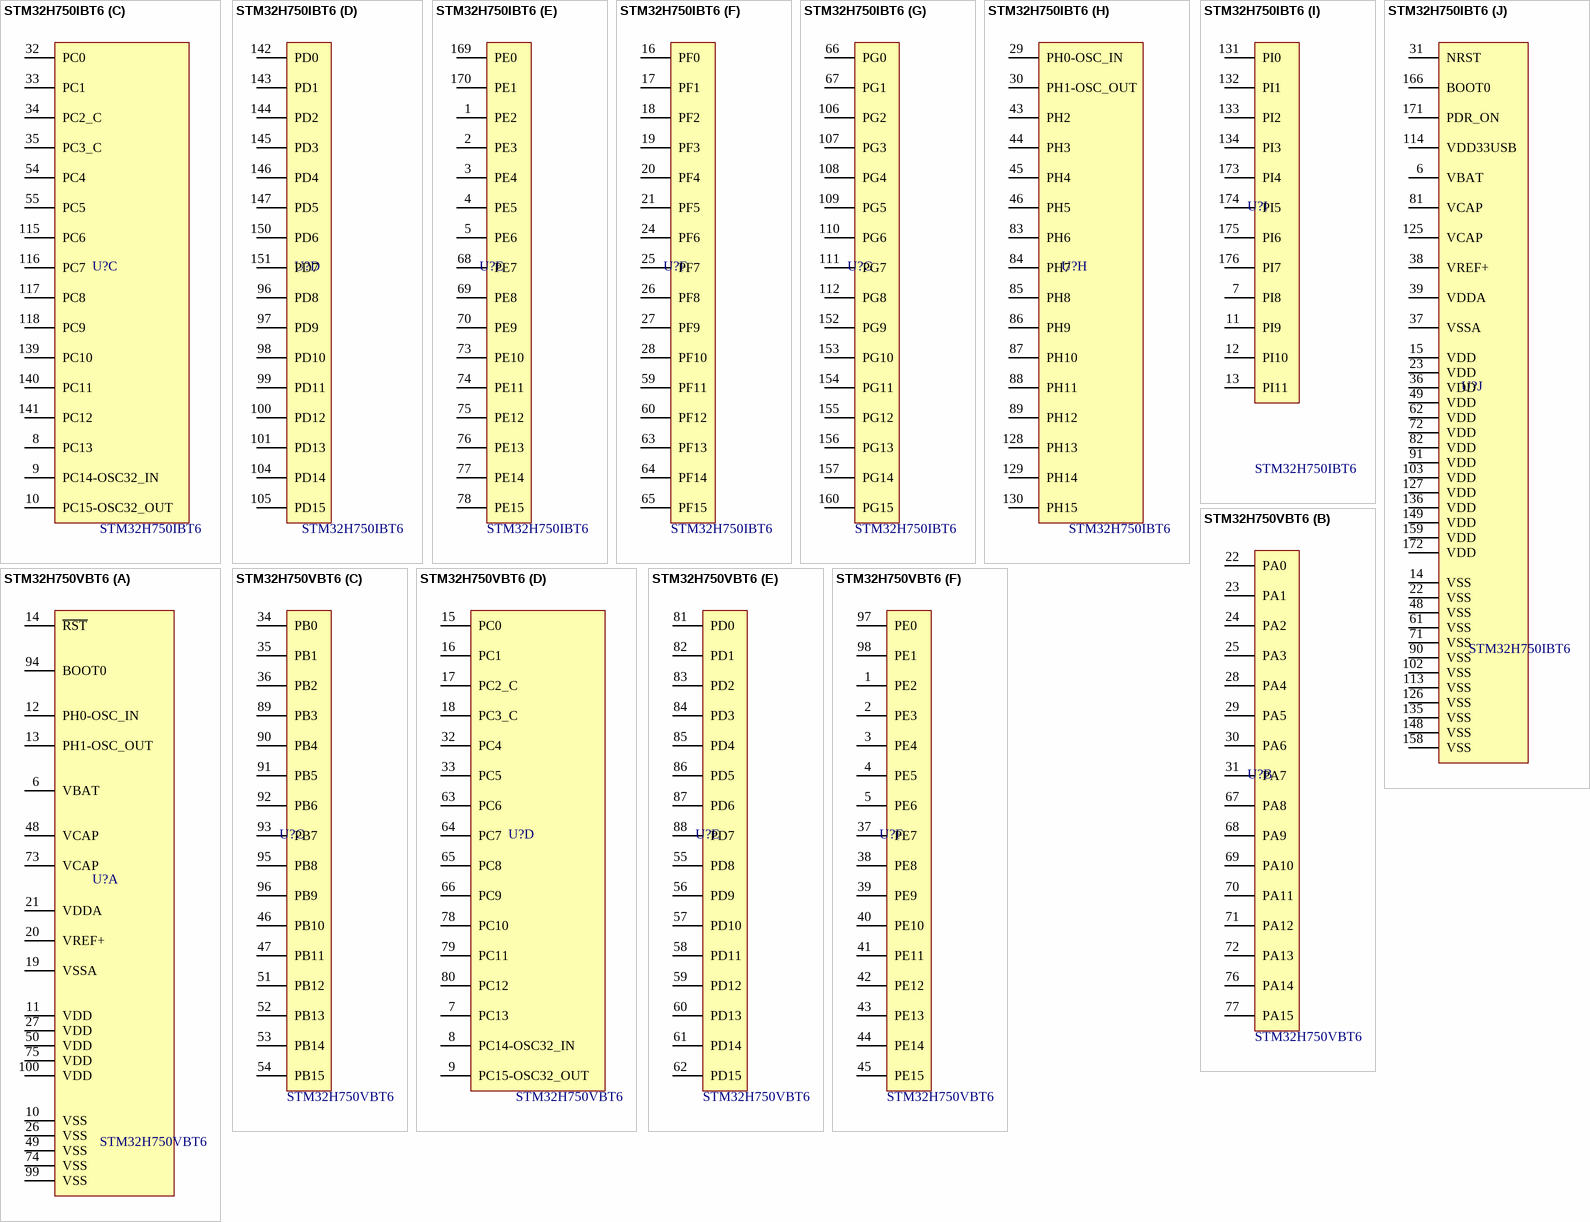
[diagram p15: symbols STM32H750IBT6 to STM32H750VBT6]

## STM32H750IBT6
designator U?
High-performance and DSP with DP-FPU, Arm Cortex-M7 MCU with 128Kbytes of Flash memory, 1MB RAM, 480 MHz CPU, L1 cache, external memory interface, JPEG codec, HW crypto, large set of peripherals; Manufacturer: STMicroelectronics; Category: IC; Sub-Category: CPU; Package: QFP176; Value: STM32H750IBT6
footprint TSQFP50P2600X2600X160-176N (TSQFP, 176-Leads, Body 24,00x24,00mm, Pitch 0,50mm, IPC Medium Density)
part A pins: 40 PA0, 41 PA1, 42 PA2, 47 PA3, 50 PA4, 51 PA5, 52 PA6, 53 PA7, 119 PA8, 120 PA9, 121 PA10, 122 PA11, 123 PA12, 124 PA13, 137 PA14, 138 PA15
part B pins: 56 PB0, 57 PB1, 58 PB2, 79 PB10, 80 PB11, 92 PB12, 93 PB13, 94 PB14, 95 PB15, 161 PB3, 162 PB4, 163 PB5, 164 PB6, 165 PB7, 167 PB8, 168 PB9
part C pins: 8 PC13, 9 PC14-OSC32_IN, 10 PC15-OSC32_OUT, 32 PC0, 33 PC1, 34 PC2_C, 35 PC3_C, 54 PC4, 55 PC5, 115 PC6, 116 PC7, 117 PC8, 118 PC9, 139 PC10, 140 PC11, 141 PC12
part D pins: 96 PD8, 97 PD9, 98 PD10, 99 PD11, 100 PD12, 101 PD13, 104 PD14, 105 PD15, 142 PD0, 143 PD1, 144 PD2, 145 PD3, 146 PD4, 147 PD5, 150 PD6, 151 PD7
part E pins: 1 PE2, 2 PE3, 3 PE4, 4 PE5, 5 PE6, 68 PE7, 69 PE8, 70 PE9, 73 PE10, 74 PE11, 75 PE12, 76 PE13, 77 PE14, 78 PE15, 169 PE0, 170 PE1
part F pins: 16 PF0, 17 PF1, 18 PF2, 19 PF3, 20 PF4, 21 PF5, 24 PF6, 25 PF7, 26 PF8, 27 PF9, 28 PF10, 59 PF11, 60 PF12, 63 PF13, 64 PF14, 65 PF15
part G pins: 66 PG0, 67 PG1, 106 PG2, 107 PG3, 108 PG4, 109 PG5, 110 PG6, 111 PG7, 112 PG8, 152 PG9, 153 PG10, 154 PG11, 155 PG12, 156 PG13, 157 PG14, 160 PG15
part H pins: 29 PH0-OSC_IN, 30 PH1-OSC_OUT, 43 PH2, 44 PH3, 45 PH4, 46 PH5, 83 PH6, 84 PH7, 85 PH8, 86 PH9, 87 PH10, 88 PH11, 89 PH12, 128 PH13, 129 PH14, 130 PH15
part I pins: 7 PI8, 11 PI9, 12 PI10, 13 PI11, 131 PI0, 132 PI1, 133 PI2, 134 PI3, 173 PI4, 174 PI5, 175 PI6, 176 PI7
part J pins: 6 VBAT, 14 VSS, 15 VDD, 22 VSS, 23 VDD, 31 NRST, 36 VDD, 37 VSSA, 38 VREF+, 39 VDDA, 48 VSS, 49 VDD, 61 VSS, 62 VDD, 71 VSS, 72 VDD, 81 VCAP, 82 VDD, 90 VSS, 91 VDD, 102 VSS, 103 VDD, 113 VSS, 114 VDD33USB, 125 VCAP, 126 VSS, 127 VDD, 135 VSS, 136 VDD, 148 VSS, 149 VDD, 158 VSS, 159 VDD, 166 BOOT0, 171 PDR_ON, 172 VDD

## STM32H750VBT6
designator U?
ARM Microcontrollers - MCU High-performance & DSP DP-FPU, Arm Cortex-M7 MCU 128 Kbytes of Flash 1MB RAM, 48; Manufacturer: STMicroelectronics; Category: IC; Sub-Category: CPU; Package: QFP100; Value: STM32H750VBT6
footprint TSQFP50P1600X1600X160-100N (TSQFP, 100-Leads, Body 14,00x14,00mm, Pitch 0,50mm, IPC Medium Density)
part A pins: 6 VBAT, 10 VSS, 11 VDD, 12 PH0-OSC_IN, 13 PH1-OSC_OUT, 14 ~{RST}, 19 VSSA, 20 VREF+, 21 VDDA, 26 VSS, 27 VDD, 48 VCAP, 49 VSS, 50 VDD, 73 VCAP, 74 VSS, 75 VDD, 94 BOOT0, 99 VSS, 100 VDD
part B pins: 22 PA0, 23 PA1, 24 PA2, 25 PA3, 28 PA4, 29 PA5, 30 PA6, 31 PA7, 67 PA8, 68 PA9, 69 PA10, 70 PA11, 71 PA12, 72 PA13, 76 PA14, 77 PA15
part C pins: 34 PB0, 35 PB1, 36 PB2, 46 PB10, 47 PB11, 51 PB12, 52 PB13, 53 PB14, 54 PB15, 89 PB3, 90 PB4, 91 PB5, 92 PB6, 93 PB7, 95 PB8, 96 PB9
part D pins: 7 PC13, 8 PC14-OSC32_IN, 9 PC15-OSC32_OUT, 15 PC0, 16 PC1, 17 PC2_C, 18 PC3_C, 32 PC4, 33 PC5, 63 PC6, 64 PC7, 65 PC8, 66 PC9, 78 PC10, 79 PC11, 80 PC12
part E pins: 55 PD8, 56 PD9, 57 PD10, 58 PD11, 59 PD12, 60 PD13, 61 PD14, 62 PD15, 81 PD0, 82 PD1, 83 PD2, 84 PD3, 85 PD4, 86 PD5, 87 PD6, 88 PD7
part F pins: 1 PE2, 2 PE3, 3 PE4, 4 PE5, 5 PE6, 37 PE7, 38 PE8, 39 PE9, 40 PE10, 41 PE11, 42 PE12, 43 PE13, 44 PE14, 45 PE15, 97 PE0, 98 PE1

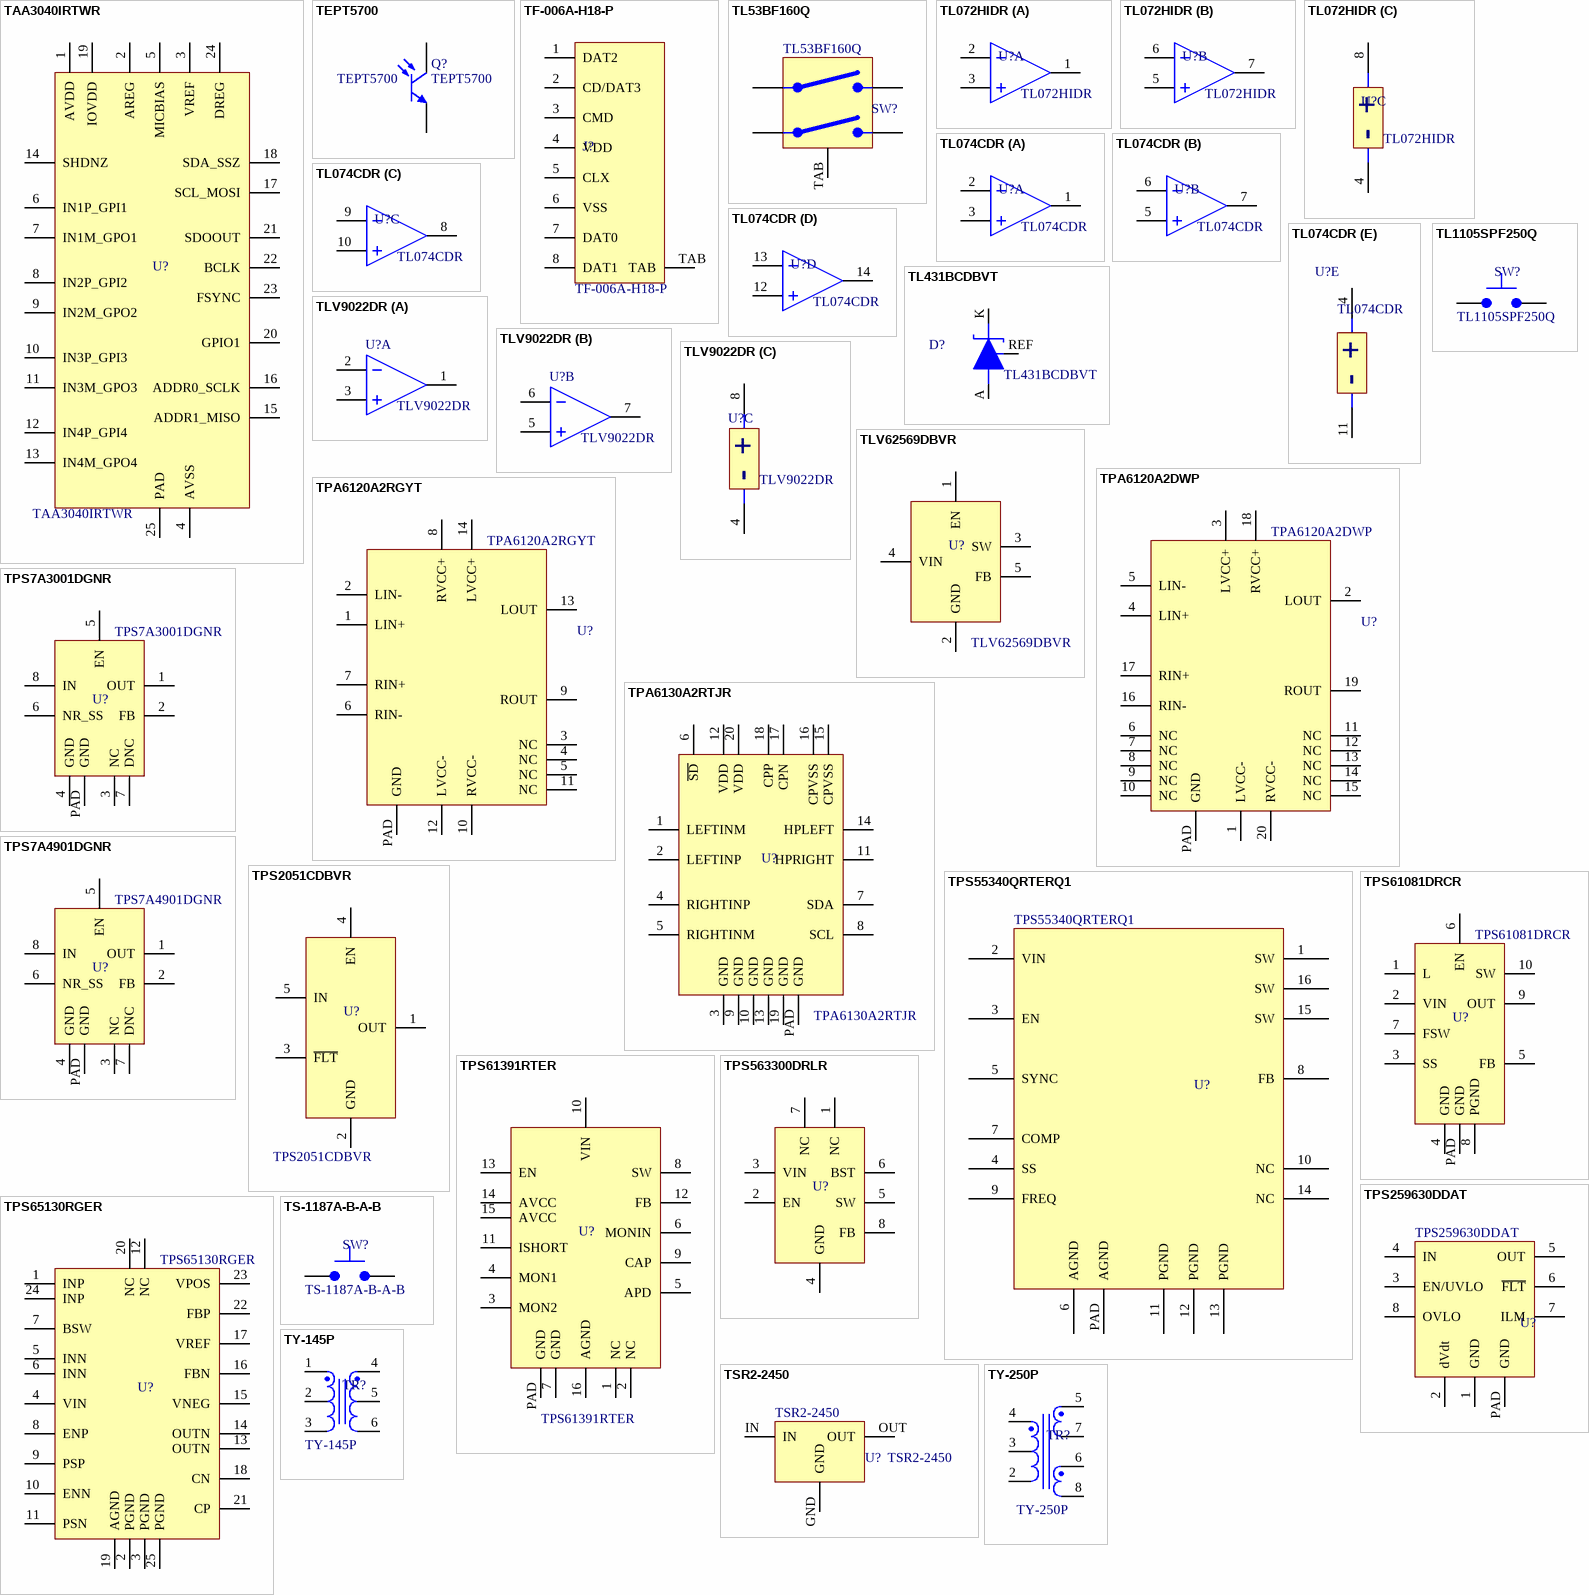
[diagram p16: symbols TAA3040IRTWR to TY-250P]

## TAA3040IRTWR
designator U?
Quad-Channel, 768-kHz, 104dB Dynamic Range Audio ADC; Manufacturer: Texas Instruments; Category: IC; Sub-Category: Audio; Package: QFN24; Value: TAA3040IRTWR
footprint QFN50P400X400X80_HS-25N (QFN, 24-Leads, Body 4,00x4,00mm, Pitch 0,50mm, Thermal Pad 2,70x2,70mm, IPC Medium Density)
pins: 1  AVDD, 2 AREG, 3 VREF, 4 AVSS, 5 MICBIAS, 6 IN1P_GPI1, 7 IN1M_GPO1, 8 IN2P_GPI2, 9 IN2M_GPO2, 10 IN3P_GPI3, 11 IN3M_GPO3, 12 IN4P_GPI4, 13 IN4M_GPO4, 14 SHDNZ, 15 ADDR1_MISO, 16 ADDR0_SCLK, 17 SCL_MOSI, 18 SDA_SSZ, 19 IOVDD, 20 GPIO1, 21 SDOOUT, 22 BCLK, 23 FSYNC, 24 DREG, 25 PAD

## TEPT5700
designator Q?
Photo Transistor, 570nm, 0.02A I(C); Manufacturer: Vishay; Dark Current-Max: 50nA; Light Current-Nom: 75uA; Max Power Dissipation: 100mW; Infrared Range: No; On-State Current-Max: 20mA; Coll-emtr Bkdn Voltage-Min: 6V; Channels: 1; Shape: Round; Category: IC; RoHS Compliant: Yes; Optoelectronic Device Type: PHOTO TRANSISTOR; Max Operating Temperature: 85°C; Sub-Category: Optical; Reach SVHC Compliant: Yes; Mounting Technology: Through Hole; Size: 5.1mm; Min Operating Temperature: -40°C; Manufacturer Part Number: TEPT5700; Component Type: Standard_Passive_Transformer; Value: TEPT5700
footprint TEPT5700; pin to pad C>+ E>-
pins: C, E

## TF-006A-H18-P
designator J?
Ejector Hinged Lid MicroSD Card; Manufacturer: Zhongdi; Category: Connector; Sub-Category: SD Card; Value: TF-006A-H18-P
footprint TF-006A-H18-P
pins: 1 DAT2, 2 CD/DAT3, 3 CMD, 4 VDD, 5 CLX, 6 VSS, 7 DAT0, 8 DAT1, TAB

## TL53BF160Q
designator SW?
Switch Tactile N.O./N.C. DPST Round Button PC Pins 0.05A 12VDC 1.57N Thru-Hole; Manufacturer: E-Switch; Category: Switch; Sub-Category: Mechanical; Manufacturer Part Number: TL53BF160Q; Component Type: Standard_Mechanical; Value: TL53BF160Q
footprint TL53BF160Q (Double SPST right angle tactile switch)
pins: 1, 2, 3, 4, TAB

## TL072HIDR
designator U?
Operational Amplifiers - Op Amps Dual Low Noise Op Amp; Manufacturer: Texas Instruments; Category: IC; Sub-Category: OpAmp; Package: SOIC8; Value: TL072HIDR
footprint SOIC127P600X175-8L (SOIC, 8-Leads, Body 4,90x3,90mm, Pitch 1,27mm, IPC High Density)
part A pins: 1 OUT1, 2 IN1-, 3 IN1+
part B pins: 5 IN2+, 6 IN2-, 7 OUT2
part C pins: 4 VCC- (power), 8 VCC+ (power)
part C text: +; -

## TL074CDR
designator U?
Low-Noise FET-Input Operational Amplifiers; Manufacturer: Texas Instruments; Category: IC; Sub-Category: OpAmp; Package: SOIC14; Value: TL074CDR
footprint SOIC127P600X175-14N (Footprint not found)
part A pins: 1 OUT1, 2 IN1-, 3 IN1+
part B pins: 5 IN2+, 6 IN2-, 7 OUT2
part C pins: 8 OUT2, 9 IN2-, 10 IN2+
part D pins: 12 IN2+, 13 IN2-, 14 OUT2
part E pins: 4 VCC+ (power), 11 VCC- (power)
part E text: +; -

## TL431BCDBVT
designator D?
Three Terminal Voltage Reference, 1 Output, 2.495V, Trim/Adjustable, BIPolar, PDSO5; Manufacturer: Texas Instruments; Package Equivalence Code: TSOP5/6,.11,37; Number of Outputs: 1; Package Body Material: Plastic; Trim/Adjustable Output: Yes; Temp Coef of Voltage-Max: 91.612ppm/°C; Min Output Voltage: 2.483V; Max Output Voltage: 2.507V; Supply Voltage-Max (Vsup): 36V; Max Output Current: 100mA; Qualification Status: Not Qualified; REACH SVHC: Yes; Technology: BIPOLAR; Nominal Output Voltage: 2.495V; Terminal Finish: Nickel; Number of Pins: 5; Sub-Category: Signal; Length: 2.9mm; Max Operating Temperature: 70°C; Analog IC - Other Type: THREE TERMINAL VOLTAGE REFERENCE; Surface Mount: Yes; Moisture Sensitivity Level: 1; Package Code: LSSOP; Package Style: SMALL OUTLINE, LOW PROFILE, SHRINK PITCHMeter; JESD-609 Code: e4; Supply Voltage-Min (Vsup): 2.495V; Terminal Position: DUAL; JESD-30 Code: R-PDSO-G5; Width: 1.6mm; Package Shape: Rectangular; Temperature Grade: COMMERCIAL; RoHS Compliant: Yes; Terminal Pitch: 0.95mm; Peak Reflow Temperature (Cel): 260°C; Min Operating Temperature: 0°C; Number of Functions: 1; Height - Seated (Max): 1.45mm; Terminal Form: Gull Wing; Category: Diode; Manufacturer Part Number: TL431BCDBVT; Component Type: Standard_Diode; Package: SOT23-5; Value: TL431BCDBVT
footprint SOT95P280X145-5N (SOT23, 5-Leads, Body 2.90x2.80mm, Pitch 0.95mm, IPC Medium Density); pin to pad A>5 K>3 REF>4
pins: A, K, REF

## TL1105SPF250Q
designator SW?
SERIES TL1105 SWITCHES TACT SWITCHES - 6mm x 6mm; Manufacturer: E-Switch; Category: Switch; Sub-Category: Tactile; Value: TL1105SPF250Q
footprint TL1105SPF250Q; pin to pad 1>1+2 2>3+4
pins: 1, 2

## TLV9022DR
designator U?
Dual precision comparator with open-drain output 8-SOIC -40 to 125; Manufacturer: Texas Instruments; Category: IC; Sub-Category: OpAmp; Manufacturer Part Number: TLV9022DR; Component Type: Standard_IC_OpAmp; Package: SOIC8; Value: TLV9022DR
footprint SOIC127P600X175-8L (SOIC, 8-Leads, Body 4,90x3,90mm, Pitch 1,27mm, IPC High Density)
part A pins: 1 OUT1, 2 IN1-, 3 IN1+
part B pins: 5 IN2+, 6 IN2-, 7 OUT2
part C pins: 4 VCC- (power), 8 VCC+ (power)
part C text: +; -

## TLV62569DBVR
designator U?
2-A High Efficiency Synchronous Buck Converter; Manufacturer: Texas Instruments; Category: IC; Sub-Category: Power; Package: SOT23-5; Value: TLV62569DBVR
footprint SOT95P280X145-5N (SOT23, 5-Leads, Body 2,90x2,80mm, Pitch 0,95mm, IPC Medium Density)
pins: 1 EN, 2 GND, 3 SW, 4 VIN, 5 FB

## TPA6120A2DWP
designator U?
Audio Amplifier, 1.5W, 2 Channel(s), 1 Func, SOIC20; Manufacturer: Texas Instruments; Manufacturer Part Number: TPA6120A2RGYT; Category: IC; JESD-609 Code: e4; Sub-Category: Audio; Moisture Sensitivity Level: 2; Terminal Finish: Nickel; REACH SVHC: Yes; Consumer IC Type: AUDIO AMPLIFIER; RoHS Compliant: Yes; Peak Reflow Temperature (Cel): 260°C; Component Type: Standard_IC_OpAmp; Package: SOIC20; Value: TPA6120A2DWP
footprint SOIC127P1040X265_HS-21N (SOIC, 20-Leads, Body 12,83x7,52mm, Pitch 1,27mm, Thermal Pad 3,81x2,79mm, IPC Medium Density)
pins: 1 LVCC-, 2 LOUT, 3 LVCC+, 4 LIN+, 5 LIN-, 6 NC, 7 NC, 8 NC, 9 NC, 10 NC, 11 NC, 12 NC, 13 NC, 14 NC, 15 NC, 16 RIN-, 17 RIN+, 18 RVCC+, 19 ROUT, 20 RVCC-, PAD GND

## TPA6120A2RGYT
designator U?
Audio Amplifier, 1.5W, 2 Channel(s), 1 Func, PQCC14; Manufacturer: Texas Instruments; Category: IC; JESD-609 Code: e4; Sub-Category: Audio; Moisture Sensitivity Level: 2; Terminal Finish: Nickel; REACH SVHC: Yes; Consumer IC Type: AUDIO AMPLIFIER; RoHS Compliant: Yes; Peak Reflow Temperature (Cel): 260°C; Manufacturer Part Number: TPA6120A2RGYT; Component Type: Standard_IC_OpAmp; Package: QFN14; Value: TPA6120A2RGYT
footprint PQFN50P350X350X100_HS-15N (PQFN, 14-Leads, Body 3.50x3.50mm, Pitch 0.50mm/1.50mm, Thermal Pad 2.05x2.05mm, IPC Medium Density)
pins: 1 LIN+, 2 LIN-, 3 NC, 4 NC, 5 NC, 6 RIN-, 7 RIN+, 8 RVCC+, 9 ROUT, 10 RVCC-, 11 NC, 12 LVCC-, 13 LOUT, 14 LVCC+, PAD GND

## TPA6130A2RTJR
designator U?
138-mW DIRECTPATH™ Stereo Headphone Amplifier with I2C Volume Control; Manufacturer: Texas Instruments; Category: IC; Sub-Category: Amplifier; Value: TPA6130A2RTJR
footprint QFN50P400X400X80_HS-21N (QFN, 20-Leads, Body 4,00x4,00mm, Pitch 0,50mm, Thermal Pad 2,70x2,70mm, IPC Medium Density)
pins: 1 LEFTINM, 2 LEFTINP, 3 GND, 4 RIGHTINP, 5 RIGHTINM, 6 ~{SD}, 7 SDA, 8 SCL, 9 GND, 10 GND, 11 HPRIGHT, 12 VDD, 13 GND, 14 HPLEFT, 15 CPVSS, 16 CPVSS, 17 CPN, 18 CPP, 19 GND, 20 VDD, PAD GND

## TPS7A3001DGNR
designator U?
–35-V, –200-mA, Ultralow-Noise, Negative Linear Regulator; Manufacturer: Texas Instruments; Package: HVSSOP8; Category: IC; Sub-Category: Power; Value: TPS7A3001DGNR
footprint TSOP65P490X110_HS-9N (TSOP, 8-Leads, Body 3,00x3,00mm, Pitch 0,65mm, Thermal Pad 2,15x1,85mm, IPC Medium Density)
pins: 1 OUT, 2 FB, 3 NC, 4 GND, 5 EN, 6 NR_SS, 7 DNC, 8 IN, PAD GND

## TPS7A4901DGNR
designator U?
–35-V, –200-mA, Ultralow-Noise, Positive Linear Regulator; Manufacturer: Texas Instruments; Package: HVSSOP8; Category: IC; Sub-Category: Power; Value: TPS7A4901DGNR
footprint TSOP65P490X110_HS-9N (TSOP, 8-Leads, Body 3,00x3,00mm, Pitch 0,65mm, Thermal Pad 2,15x1,85mm, IPC Medium Density)
pins: 1 OUT, 2 FB, 3 NC, 4 GND, 5 EN, 6 NR_SS, 7 DNC, 8 IN, PAD GND

## TPS2051CDBVR
designator U?
Current Limited, Power-Distribution Switches; Manufacturer: Texas Instruments; Category: IC; Sub-Category: Power; Package: SOT23-5; Value: TPS2051CDBVR
footprint SOT95P280X145-5N (SOT23, 5-Leads, Body 2,90x2,80mm, Pitch 0,95mm, IPC Medium Density)
pins: 1 OUT, 2 GND, 3 ~{FLT}, 4 EN, 5 IN